# Altium integrated library Altera Cyclone III.IntLib: 225 symbols (part 11 of 46)
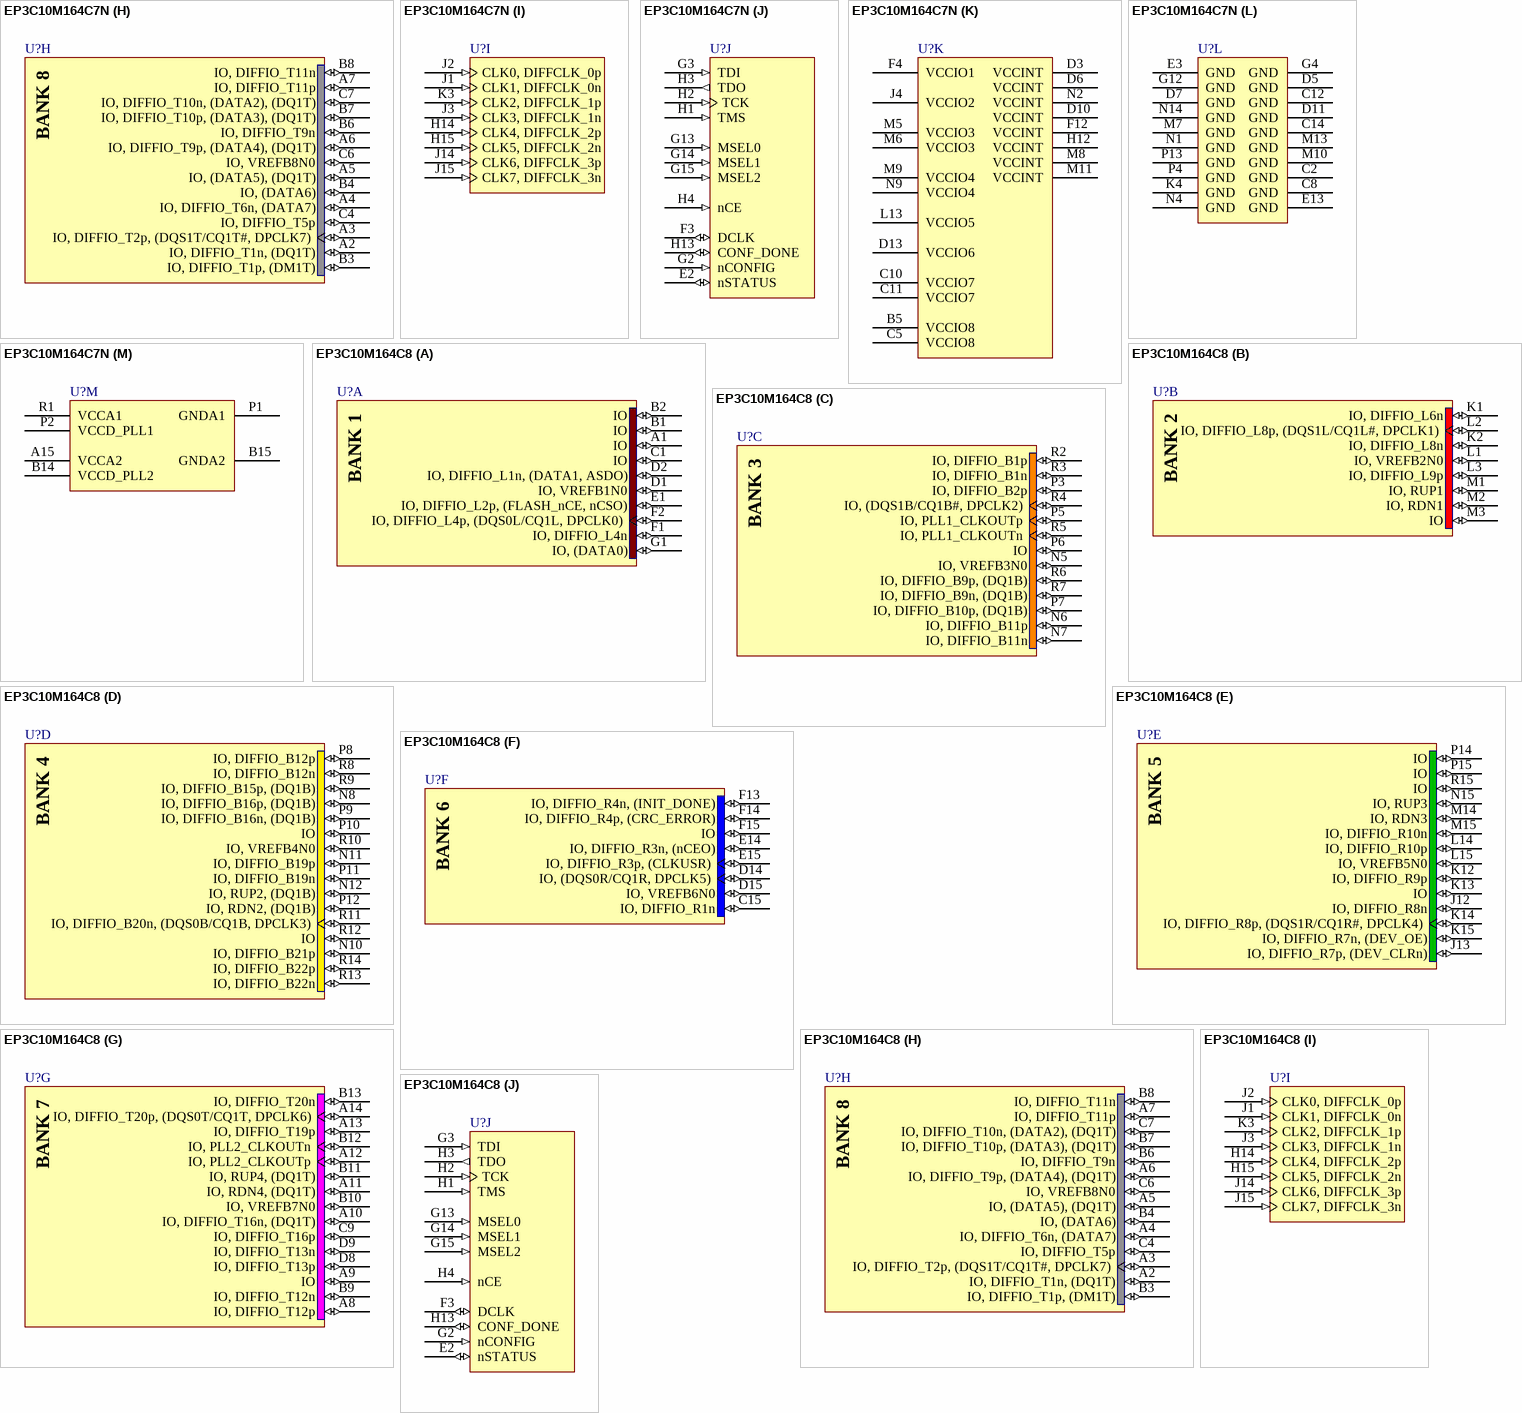
[diagram p404: symbols EP3C10M164C7N to EP3C10M164C8]

## EP3C10M164C7N
designator U?
Cyclone III Family FPGA, 106 I/O Pins, 4 PLLs, 164-Pin EQFP, Speed Grade 7, Commercial Grade, Pb-Free; DatasheetVersion: ver2.0, May-2008; PackageVersion: ver15.1, May-2008; PackageReference: MBGA164; PackageDescription: 164-Pin Micro FineLine Ball Grid Array (MBGA) - Wire Bond; Code_JEDEC: MO-195-AE; ComponentLink1Description: Manufacturer URL; ComponentLink1URL: http://www.altera.com/; ComponentLink2Description: Handbook (7.86MB); ComponentLink2URL: http://www.altera.com/literature/hb/cyc3/cyclone3_handbook.pdf; ComponentLink3Description: Package Specification; ComponentLink3URL: http://www.altera.com/literature/ds/dspkg.pdf
footprint MBGA164 (BGA, 164-Leads, Body 8x8mm, Pitch 0.5mm)
part A pins: A1 IO (io), B1 IO (io), B2 IO (io), C1 IO (io), D1 IO, VREFB1N0 (io), D2 IO, DIFFIO_L1n, (DATA1, ASDO) (io), E1 IO, DIFFIO_L2p, (FLASH_nCE, nCSO) (io), F1 IO, DIFFIO_L4n (io), F2 IO, DIFFIO_L4p, (DQS0L/CQ1L, DPCLK0) (io), G1 IO, (DATA0) (io)
part B pins: K1 IO, DIFFIO_L6n (io), K2 IO, DIFFIO_L8n (io), L1 IO, VREFB2N0 (io), L2 IO, DIFFIO_L8p, (DQS1L/CQ1L#, DPCLK1) (io), L3 IO, DIFFIO_L9p (io), M1 IO, RUP1 (io), M2 IO, RDN1 (io), M3 IO (io)
part C pins: N5 IO, VREFB3N0 (io), N6 IO, DIFFIO_B11p (io), N7 IO, DIFFIO_B11n (io), P3 IO, DIFFIO_B2p (io), P5 IO, PLL1_CLKOUTp (io), P6 IO (io), P7 IO, DIFFIO_B10p, (DQ1B) (io), R2 IO, DIFFIO_B1p (io), R3 IO, DIFFIO_B1n (io), R4 IO, (DQS1B/CQ1B#, DPCLK2) (io), R5 IO, PLL1_CLKOUTn (io), R6 IO, DIFFIO_B9p, (DQ1B) (io), R7 IO, DIFFIO_B9n, (DQ1B) (io)
part D pins: N8 IO, DIFFIO_B16p, (DQ1B) (io), N10 IO, DIFFIO_B21p (io), N11 IO, DIFFIO_B19p (io), N12 IO, RUP2, (DQ1B) (io), P8 IO, DIFFIO_B12p (io), P9 IO, DIFFIO_B16n, (DQ1B) (io), P10 IO (io), P11 IO, DIFFIO_B19n (io), P12 IO, RDN2, (DQ1B) (io), R8 IO, DIFFIO_B12n (io), R9 IO, DIFFIO_B15p, (DQ1B) (io), R10 IO, VREFB4N0 (io), R11 IO, DIFFIO_B20n, (DQS0B/CQ1B, DPCLK3) (io), R12 IO (io), R13 IO, DIFFIO_B22n (io), R14 IO, DIFFIO_B22p (io)
part E pins: J12 IO, DIFFIO_R8n (io), J13 IO, DIFFIO_R7p, (DEV_CLRn) (io), K12 IO, DIFFIO_R9p (io), K13 IO (io), K14 IO, DIFFIO_R8p, (DQS1R/CQ1R#, DPCLK4) (io), K15 IO, DIFFIO_R7n, (DEV_OE) (io), L14 IO, DIFFIO_R10p (io), L15 IO, VREFB5N0 (io), M14 IO, RDN3 (io), M15 IO, DIFFIO_R10n (io), N15 IO, RUP3 (io), P14 IO (io), P15 IO (io), R15 IO (io)
part F pins: C15 IO, DIFFIO_R1n (io), D14 IO, (DQS0R/CQ1R, DPCLK5) (io), D15 IO, VREFB6N0 (io), E14 IO, DIFFIO_R3n, (nCEO) (io), E15 IO, DIFFIO_R3p, (CLKUSR) (io), F13 IO, DIFFIO_R4n, (INIT_DONE) (io), F14 IO, DIFFIO_R4p, (CRC_ERROR) (io), F15 IO (io)
part G pins: A8 IO, DIFFIO_T12p (io), A9 IO (io), A10 IO, DIFFIO_T16n, (DQ1T) (io), A11 IO, RDN4, (DQ1T) (io), A12 IO, PLL2_CLKOUTp (io), A13 IO, DIFFIO_T19p (io), A14 IO, DIFFIO_T20p, (DQS0T/CQ1T, DPCLK6) (io), B9 IO, DIFFIO_T12n (io), B10 IO, VREFB7N0 (io), B11 IO, RUP4, (DQ1T) (io), B12 IO, PLL2_CLKOUTn (io), B13 IO, DIFFIO_T20n (io), C9 IO, DIFFIO_T16p (io), D8 IO, DIFFIO_T13p (io), D9 IO, DIFFIO_T13n (io)
part H pins: A2 IO, DIFFIO_T1n, (DQ1T) (io), A3 IO, DIFFIO_T2p, (DQS1T/CQ1T#, DPCLK7) (io), A4 IO, DIFFIO_T6n, (DATA7) (io), A5 IO, (DATA5), (DQ1T) (io), A6 IO, DIFFIO_T9p, (DATA4), (DQ1T) (io), A7 IO, DIFFIO_T11p (io), B3 IO, DIFFIO_T1p, (DM1T) (io), B4 IO, (DATA6) (io), B6 IO, DIFFIO_T9n (io), B7 IO, DIFFIO_T10p, (DATA3), (DQ1T) (io), B8 IO, DIFFIO_T11n (io), C4 IO, DIFFIO_T5p (io), C6 IO, VREFB8N0 (io), C7 IO, DIFFIO_T10n, (DATA2), (DQ1T) (io)
part I pins: H14 CLK4, DIFFCLK_2p (in), H15 CLK5, DIFFCLK_2n (in), J1 CLK1, DIFFCLK_0n (in), J2 CLK0, DIFFCLK_0p (in), J3 CLK3, DIFFCLK_1n (in), J14 CLK6, DIFFCLK_3p (in), J15 CLK7, DIFFCLK_3n (in), K3 CLK2, DIFFCLK_1p (in)
part J pins: E2 nSTATUS (io), F3 DCLK (io), G2 nCONFIG (in), G3 TDI (in), G13 MSEL0 (in), G14 MSEL1 (in), G15 MSEL2 (in), H1 TMS (in), H2 TCK (in), H3 TDO (out), H4 nCE (in), H13 CONF_DONE (io)
part K pins: B5 VCCIO8 (power), C5 VCCIO8 (power), C10 VCCIO7 (power), C11 VCCIO7 (power), D3 VCCINT (power), D6 VCCINT (power), D10 VCCINT (power), D13 VCCIO6 (power), F4 VCCIO1 (power), F12 VCCINT (power), H12 VCCINT (power), J4 VCCIO2 (power), L13 VCCIO5 (power), M5 VCCIO3 (power), M6 VCCIO3 (power), M8 VCCINT (power), M9 VCCIO4 (power), M11 VCCINT (power), N2 VCCINT (power), N9 VCCIO4 (power)
part L pins: C2 GND (power), C8 GND (power), C12 GND (power), C14 GND (power), D5 GND (power), D7 GND (power), D11 GND (power), E3 GND (power), E13 GND (power), G4 GND (power), G12 GND (power), K4 GND (power), M7 GND (power), M10 GND (power), M13 GND (power), N1 GND (power), N4 GND (power), N14 GND (power), P4 GND (power), P13 GND (power)
part M pins: A15 VCCA2 (power), B14 VCCD_PLL2 (power), B15 GNDA2 (power), P1 GNDA1 (power), P2 VCCD_PLL1 (power), R1 VCCA1 (power)
part A text: BANK 1
part B text: BANK 2
part C text: BANK 3
part D text: BANK 4
part E text: BANK 5
part F text: BANK 6
part G text: BANK 7
part H text: BANK 8

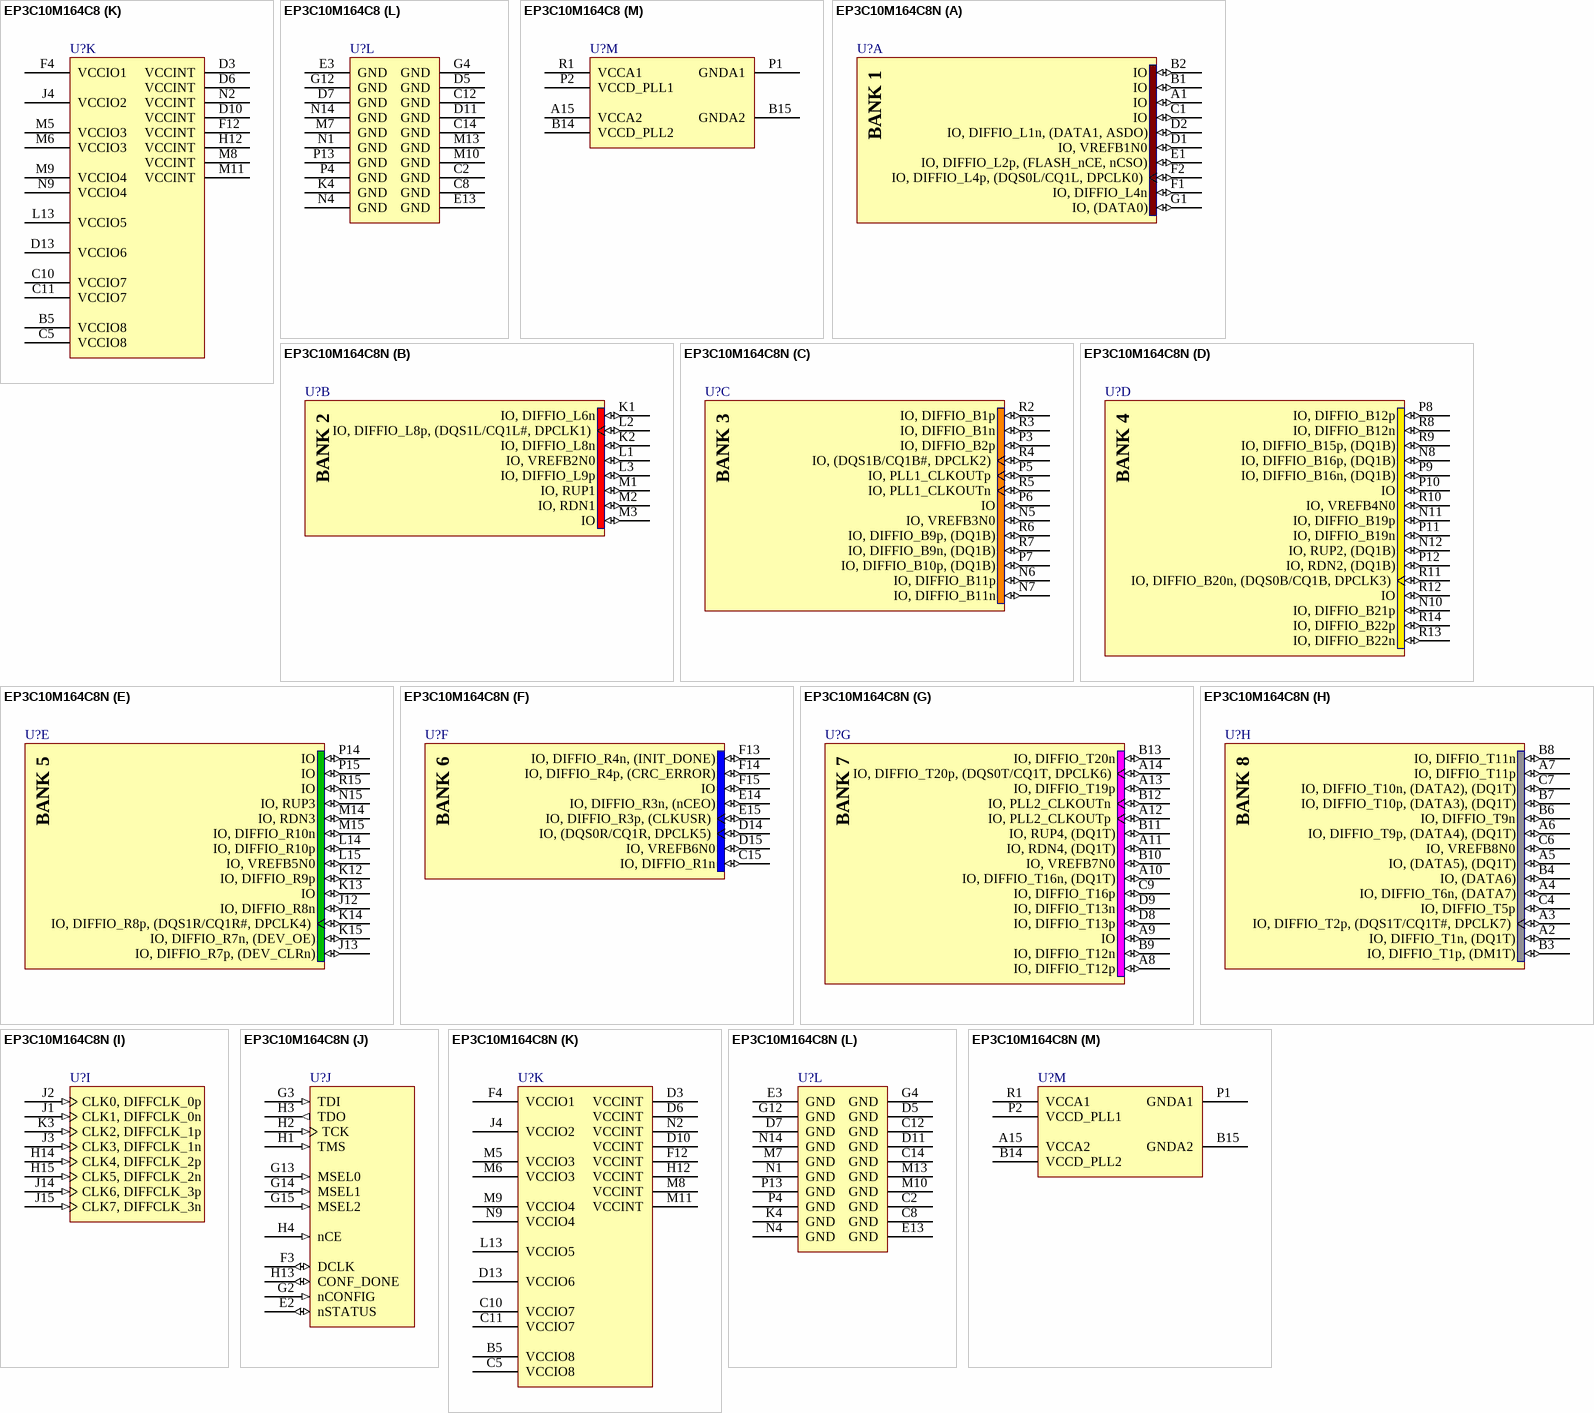
[diagram p48: symbols EP3C10M164C8 to EP3C10M164C8N]

## EP3C10M164C8
designator U?
Cyclone III Family FPGA, 106 I/O Pins, 4 PLLs, 164-Pin EQFP, Speed Grade 8, Commercial Grade; DatasheetVersion: ver2.0, May-2008; PackageVersion: ver15.1, May-2008; PackageReference: MBGA164; PackageDescription: 164-Pin Micro FineLine Ball Grid Array (MBGA) - Wire Bond; Code_JEDEC: MO-195-AE; ComponentLink1Description: Manufacturer URL; ComponentLink1URL: http://www.altera.com/; ComponentLink2Description: Handbook (7.86MB); ComponentLink2URL: http://www.altera.com/literature/hb/cyc3/cyclone3_handbook.pdf; ComponentLink3Description: Package Specification; ComponentLink3URL: http://www.altera.com/literature/ds/dspkg.pdf
footprint MBGA164 (BGA, 164-Leads, Body 8x8mm, Pitch 0.5mm)
part A pins: A1 IO (io), B1 IO (io), B2 IO (io), C1 IO (io), D1 IO, VREFB1N0 (io), D2 IO, DIFFIO_L1n, (DATA1, ASDO) (io), E1 IO, DIFFIO_L2p, (FLASH_nCE, nCSO) (io), F1 IO, DIFFIO_L4n (io), F2 IO, DIFFIO_L4p, (DQS0L/CQ1L, DPCLK0) (io), G1 IO, (DATA0) (io)
part B pins: K1 IO, DIFFIO_L6n (io), K2 IO, DIFFIO_L8n (io), L1 IO, VREFB2N0 (io), L2 IO, DIFFIO_L8p, (DQS1L/CQ1L#, DPCLK1) (io), L3 IO, DIFFIO_L9p (io), M1 IO, RUP1 (io), M2 IO, RDN1 (io), M3 IO (io)
part C pins: N5 IO, VREFB3N0 (io), N6 IO, DIFFIO_B11p (io), N7 IO, DIFFIO_B11n (io), P3 IO, DIFFIO_B2p (io), P5 IO, PLL1_CLKOUTp (io), P6 IO (io), P7 IO, DIFFIO_B10p, (DQ1B) (io), R2 IO, DIFFIO_B1p (io), R3 IO, DIFFIO_B1n (io), R4 IO, (DQS1B/CQ1B#, DPCLK2) (io), R5 IO, PLL1_CLKOUTn (io), R6 IO, DIFFIO_B9p, (DQ1B) (io), R7 IO, DIFFIO_B9n, (DQ1B) (io)
part D pins: N8 IO, DIFFIO_B16p, (DQ1B) (io), N10 IO, DIFFIO_B21p (io), N11 IO, DIFFIO_B19p (io), N12 IO, RUP2, (DQ1B) (io), P8 IO, DIFFIO_B12p (io), P9 IO, DIFFIO_B16n, (DQ1B) (io), P10 IO (io), P11 IO, DIFFIO_B19n (io), P12 IO, RDN2, (DQ1B) (io), R8 IO, DIFFIO_B12n (io), R9 IO, DIFFIO_B15p, (DQ1B) (io), R10 IO, VREFB4N0 (io), R11 IO, DIFFIO_B20n, (DQS0B/CQ1B, DPCLK3) (io), R12 IO (io), R13 IO, DIFFIO_B22n (io), R14 IO, DIFFIO_B22p (io)
part E pins: J12 IO, DIFFIO_R8n (io), J13 IO, DIFFIO_R7p, (DEV_CLRn) (io), K12 IO, DIFFIO_R9p (io), K13 IO (io), K14 IO, DIFFIO_R8p, (DQS1R/CQ1R#, DPCLK4) (io), K15 IO, DIFFIO_R7n, (DEV_OE) (io), L14 IO, DIFFIO_R10p (io), L15 IO, VREFB5N0 (io), M14 IO, RDN3 (io), M15 IO, DIFFIO_R10n (io), N15 IO, RUP3 (io), P14 IO (io), P15 IO (io), R15 IO (io)
part F pins: C15 IO, DIFFIO_R1n (io), D14 IO, (DQS0R/CQ1R, DPCLK5) (io), D15 IO, VREFB6N0 (io), E14 IO, DIFFIO_R3n, (nCEO) (io), E15 IO, DIFFIO_R3p, (CLKUSR) (io), F13 IO, DIFFIO_R4n, (INIT_DONE) (io), F14 IO, DIFFIO_R4p, (CRC_ERROR) (io), F15 IO (io)
part G pins: A8 IO, DIFFIO_T12p (io), A9 IO (io), A10 IO, DIFFIO_T16n, (DQ1T) (io), A11 IO, RDN4, (DQ1T) (io), A12 IO, PLL2_CLKOUTp (io), A13 IO, DIFFIO_T19p (io), A14 IO, DIFFIO_T20p, (DQS0T/CQ1T, DPCLK6) (io), B9 IO, DIFFIO_T12n (io), B10 IO, VREFB7N0 (io), B11 IO, RUP4, (DQ1T) (io), B12 IO, PLL2_CLKOUTn (io), B13 IO, DIFFIO_T20n (io), C9 IO, DIFFIO_T16p (io), D8 IO, DIFFIO_T13p (io), D9 IO, DIFFIO_T13n (io)
part H pins: A2 IO, DIFFIO_T1n, (DQ1T) (io), A3 IO, DIFFIO_T2p, (DQS1T/CQ1T#, DPCLK7) (io), A4 IO, DIFFIO_T6n, (DATA7) (io), A5 IO, (DATA5), (DQ1T) (io), A6 IO, DIFFIO_T9p, (DATA4), (DQ1T) (io), A7 IO, DIFFIO_T11p (io), B3 IO, DIFFIO_T1p, (DM1T) (io), B4 IO, (DATA6) (io), B6 IO, DIFFIO_T9n (io), B7 IO, DIFFIO_T10p, (DATA3), (DQ1T) (io), B8 IO, DIFFIO_T11n (io), C4 IO, DIFFIO_T5p (io), C6 IO, VREFB8N0 (io), C7 IO, DIFFIO_T10n, (DATA2), (DQ1T) (io)
part I pins: H14 CLK4, DIFFCLK_2p (in), H15 CLK5, DIFFCLK_2n (in), J1 CLK1, DIFFCLK_0n (in), J2 CLK0, DIFFCLK_0p (in), J3 CLK3, DIFFCLK_1n (in), J14 CLK6, DIFFCLK_3p (in), J15 CLK7, DIFFCLK_3n (in), K3 CLK2, DIFFCLK_1p (in)
part J pins: E2 nSTATUS (io), F3 DCLK (io), G2 nCONFIG (in), G3 TDI (in), G13 MSEL0 (in), G14 MSEL1 (in), G15 MSEL2 (in), H1 TMS (in), H2 TCK (in), H3 TDO (out), H4 nCE (in), H13 CONF_DONE (io)
part K pins: B5 VCCIO8 (power), C5 VCCIO8 (power), C10 VCCIO7 (power), C11 VCCIO7 (power), D3 VCCINT (power), D6 VCCINT (power), D10 VCCINT (power), D13 VCCIO6 (power), F4 VCCIO1 (power), F12 VCCINT (power), H12 VCCINT (power), J4 VCCIO2 (power), L13 VCCIO5 (power), M5 VCCIO3 (power), M6 VCCIO3 (power), M8 VCCINT (power), M9 VCCIO4 (power), M11 VCCINT (power), N2 VCCINT (power), N9 VCCIO4 (power)
part L pins: C2 GND (power), C8 GND (power), C12 GND (power), C14 GND (power), D5 GND (power), D7 GND (power), D11 GND (power), E3 GND (power), E13 GND (power), G4 GND (power), G12 GND (power), K4 GND (power), M7 GND (power), M10 GND (power), M13 GND (power), N1 GND (power), N4 GND (power), N14 GND (power), P4 GND (power), P13 GND (power)
part M pins: A15 VCCA2 (power), B14 VCCD_PLL2 (power), B15 GNDA2 (power), P1 GNDA1 (power), P2 VCCD_PLL1 (power), R1 VCCA1 (power)
part A text: BANK 1
part B text: BANK 2
part C text: BANK 3
part D text: BANK 4
part E text: BANK 5
part F text: BANK 6
part G text: BANK 7
part H text: BANK 8

## EP3C10M164C8N
designator U?
Cyclone III Family FPGA, 106 I/O Pins, 4 PLLs, 164-Pin EQFP, Speed Grade 8, Commercial Grade, Pb-Free; DatasheetVersion: ver2.0, May-2008; PackageVersion: ver15.1, May-2008; PackageReference: MBGA164; PackageDescription: 164-Pin Micro FineLine Ball Grid Array (MBGA) - Wire Bond; Code_JEDEC: MO-195-AE; ComponentLink1Description: Manufacturer URL; ComponentLink1URL: http://www.altera.com/; ComponentLink2Description: Handbook (7.86MB); ComponentLink2URL: http://www.altera.com/literature/hb/cyc3/cyclone3_handbook.pdf; ComponentLink3Description: Package Specification; ComponentLink3URL: http://www.altera.com/literature/ds/dspkg.pdf
footprint MBGA164 (BGA, 164-Leads, Body 8x8mm, Pitch 0.5mm)
part A pins: A1 IO (io), B1 IO (io), B2 IO (io), C1 IO (io), D1 IO, VREFB1N0 (io), D2 IO, DIFFIO_L1n, (DATA1, ASDO) (io), E1 IO, DIFFIO_L2p, (FLASH_nCE, nCSO) (io), F1 IO, DIFFIO_L4n (io), F2 IO, DIFFIO_L4p, (DQS0L/CQ1L, DPCLK0) (io), G1 IO, (DATA0) (io)
part B pins: K1 IO, DIFFIO_L6n (io), K2 IO, DIFFIO_L8n (io), L1 IO, VREFB2N0 (io), L2 IO, DIFFIO_L8p, (DQS1L/CQ1L#, DPCLK1) (io), L3 IO, DIFFIO_L9p (io), M1 IO, RUP1 (io), M2 IO, RDN1 (io), M3 IO (io)
part C pins: N5 IO, VREFB3N0 (io), N6 IO, DIFFIO_B11p (io), N7 IO, DIFFIO_B11n (io), P3 IO, DIFFIO_B2p (io), P5 IO, PLL1_CLKOUTp (io), P6 IO (io), P7 IO, DIFFIO_B10p, (DQ1B) (io), R2 IO, DIFFIO_B1p (io), R3 IO, DIFFIO_B1n (io), R4 IO, (DQS1B/CQ1B#, DPCLK2) (io), R5 IO, PLL1_CLKOUTn (io), R6 IO, DIFFIO_B9p, (DQ1B) (io), R7 IO, DIFFIO_B9n, (DQ1B) (io)
part D pins: N8 IO, DIFFIO_B16p, (DQ1B) (io), N10 IO, DIFFIO_B21p (io), N11 IO, DIFFIO_B19p (io), N12 IO, RUP2, (DQ1B) (io), P8 IO, DIFFIO_B12p (io), P9 IO, DIFFIO_B16n, (DQ1B) (io), P10 IO (io), P11 IO, DIFFIO_B19n (io), P12 IO, RDN2, (DQ1B) (io), R8 IO, DIFFIO_B12n (io), R9 IO, DIFFIO_B15p, (DQ1B) (io), R10 IO, VREFB4N0 (io), R11 IO, DIFFIO_B20n, (DQS0B/CQ1B, DPCLK3) (io), R12 IO (io), R13 IO, DIFFIO_B22n (io), R14 IO, DIFFIO_B22p (io)
part E pins: J12 IO, DIFFIO_R8n (io), J13 IO, DIFFIO_R7p, (DEV_CLRn) (io), K12 IO, DIFFIO_R9p (io), K13 IO (io), K14 IO, DIFFIO_R8p, (DQS1R/CQ1R#, DPCLK4) (io), K15 IO, DIFFIO_R7n, (DEV_OE) (io), L14 IO, DIFFIO_R10p (io), L15 IO, VREFB5N0 (io), M14 IO, RDN3 (io), M15 IO, DIFFIO_R10n (io), N15 IO, RUP3 (io), P14 IO (io), P15 IO (io), R15 IO (io)
part F pins: C15 IO, DIFFIO_R1n (io), D14 IO, (DQS0R/CQ1R, DPCLK5) (io), D15 IO, VREFB6N0 (io), E14 IO, DIFFIO_R3n, (nCEO) (io), E15 IO, DIFFIO_R3p, (CLKUSR) (io), F13 IO, DIFFIO_R4n, (INIT_DONE) (io), F14 IO, DIFFIO_R4p, (CRC_ERROR) (io), F15 IO (io)
part G pins: A8 IO, DIFFIO_T12p (io), A9 IO (io), A10 IO, DIFFIO_T16n, (DQ1T) (io), A11 IO, RDN4, (DQ1T) (io), A12 IO, PLL2_CLKOUTp (io), A13 IO, DIFFIO_T19p (io), A14 IO, DIFFIO_T20p, (DQS0T/CQ1T, DPCLK6) (io), B9 IO, DIFFIO_T12n (io), B10 IO, VREFB7N0 (io), B11 IO, RUP4, (DQ1T) (io), B12 IO, PLL2_CLKOUTn (io), B13 IO, DIFFIO_T20n (io), C9 IO, DIFFIO_T16p (io), D8 IO, DIFFIO_T13p (io), D9 IO, DIFFIO_T13n (io)
part H pins: A2 IO, DIFFIO_T1n, (DQ1T) (io), A3 IO, DIFFIO_T2p, (DQS1T/CQ1T#, DPCLK7) (io), A4 IO, DIFFIO_T6n, (DATA7) (io), A5 IO, (DATA5), (DQ1T) (io), A6 IO, DIFFIO_T9p, (DATA4), (DQ1T) (io), A7 IO, DIFFIO_T11p (io), B3 IO, DIFFIO_T1p, (DM1T) (io), B4 IO, (DATA6) (io), B6 IO, DIFFIO_T9n (io), B7 IO, DIFFIO_T10p, (DATA3), (DQ1T) (io), B8 IO, DIFFIO_T11n (io), C4 IO, DIFFIO_T5p (io), C6 IO, VREFB8N0 (io), C7 IO, DIFFIO_T10n, (DATA2), (DQ1T) (io)
part I pins: H14 CLK4, DIFFCLK_2p (in), H15 CLK5, DIFFCLK_2n (in), J1 CLK1, DIFFCLK_0n (in), J2 CLK0, DIFFCLK_0p (in), J3 CLK3, DIFFCLK_1n (in), J14 CLK6, DIFFCLK_3p (in), J15 CLK7, DIFFCLK_3n (in), K3 CLK2, DIFFCLK_1p (in)
part J pins: E2 nSTATUS (io), F3 DCLK (io), G2 nCONFIG (in), G3 TDI (in), G13 MSEL0 (in), G14 MSEL1 (in), G15 MSEL2 (in), H1 TMS (in), H2 TCK (in), H3 TDO (out), H4 nCE (in), H13 CONF_DONE (io)
part K pins: B5 VCCIO8 (power), C5 VCCIO8 (power), C10 VCCIO7 (power), C11 VCCIO7 (power), D3 VCCINT (power), D6 VCCINT (power), D10 VCCINT (power), D13 VCCIO6 (power), F4 VCCIO1 (power), F12 VCCINT (power), H12 VCCINT (power), J4 VCCIO2 (power), L13 VCCIO5 (power), M5 VCCIO3 (power), M6 VCCIO3 (power), M8 VCCINT (power), M9 VCCIO4 (power), M11 VCCINT (power), N2 VCCINT (power), N9 VCCIO4 (power)
part L pins: C2 GND (power), C8 GND (power), C12 GND (power), C14 GND (power), D5 GND (power), D7 GND (power), D11 GND (power), E3 GND (power), E13 GND (power), G4 GND (power), G12 GND (power), K4 GND (power), M7 GND (power), M10 GND (power), M13 GND (power), N1 GND (power), N4 GND (power), N14 GND (power), P4 GND (power), P13 GND (power)
part M pins: A15 VCCA2 (power), B14 VCCD_PLL2 (power), B15 GNDA2 (power), P1 GNDA1 (power), P2 VCCD_PLL1 (power), R1 VCCA1 (power)
part A text: BANK 1
part B text: BANK 2
part C text: BANK 3
part D text: BANK 4
part E text: BANK 5
part F text: BANK 6
part G text: BANK 7
part H text: BANK 8

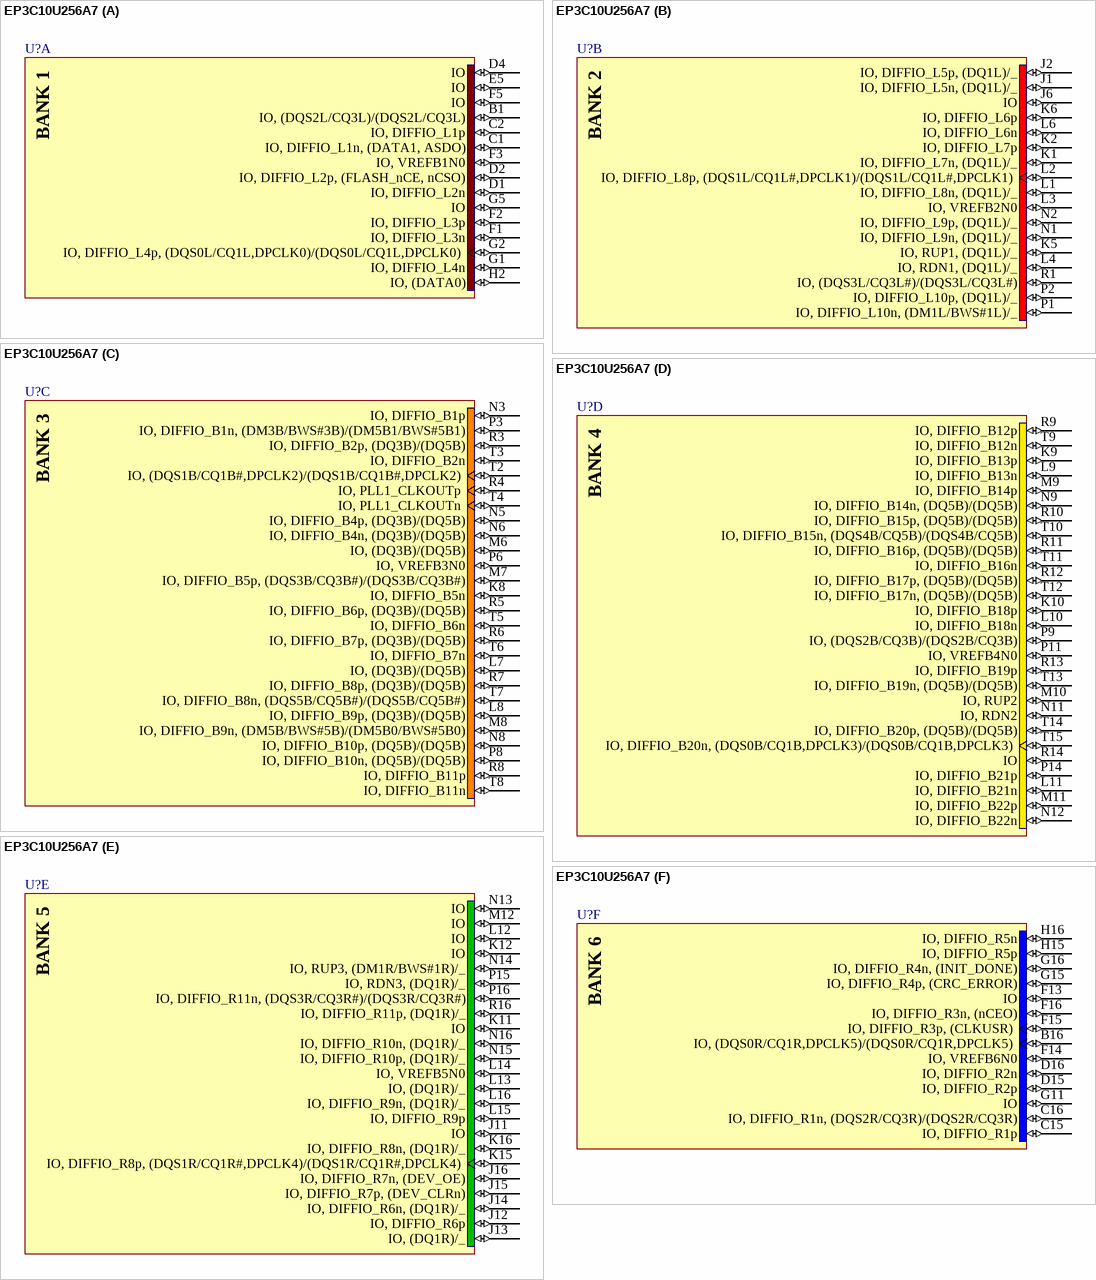
[diagram p49: symbol EP3C10U256A7]

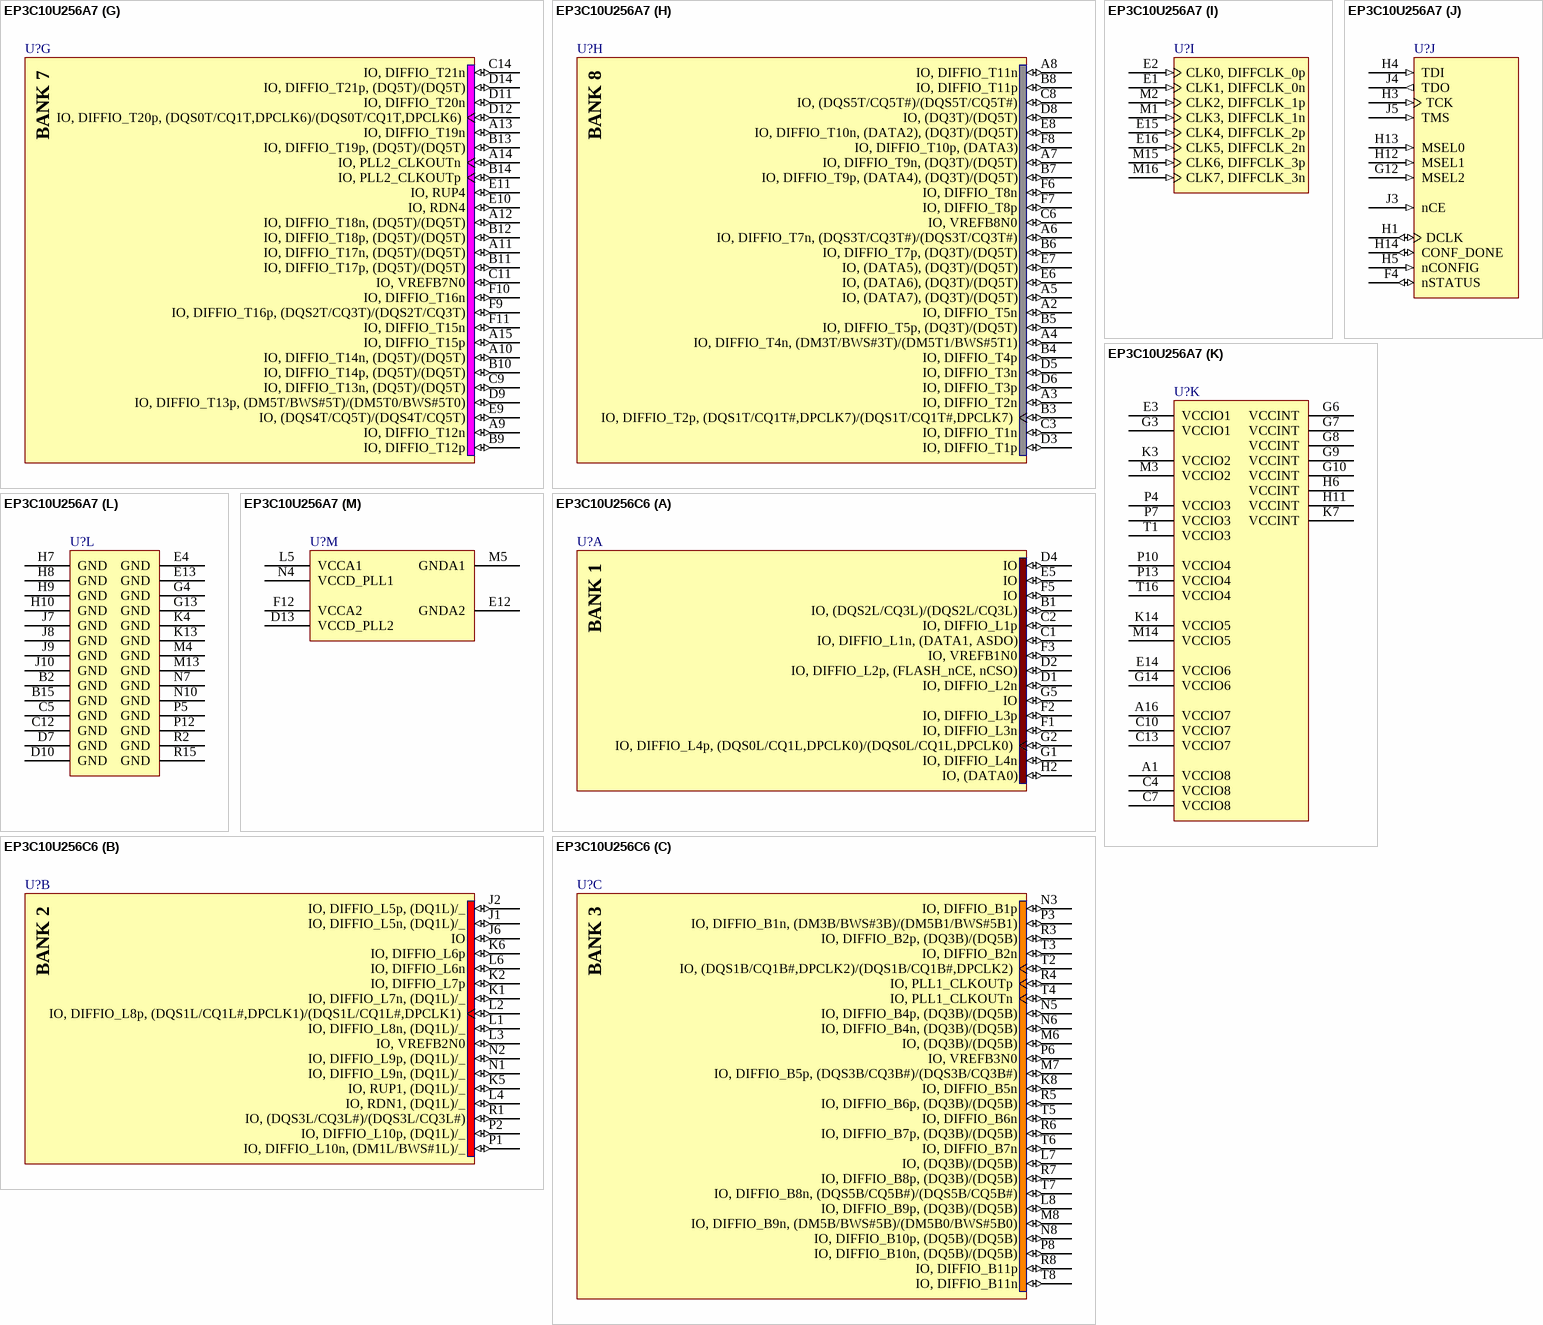
[diagram p50: symbols EP3C10U256A7 to EP3C10U256C6]

## EP3C10U256A7
designator U?
Cyclone III Family FPGA, 182 I/O Pins, 4 PLLs, 256-Pin UFBGA, Speed Grade 7, Automotive Grade, Pb-free; DatasheetVersion: ver2.0, May-2008; PackageVersion: ver15.1, May-2008; PackageReference: UBGA256; PackageDescription: 256-Ball Ultra FineLine Ball Grid Array (UBGA) - Wire Bond; Code_JEDEC: MO-216-BAJ-2; ComponentLink1Description: Manufacturer URL; ComponentLink1URL: http://www.altera.com/; ComponentLink2Description: Handbook (7.86MB); ComponentLink2URL: http://www.altera.com/literature/hb/cyc3/cyclone3_handbook.pdf; ComponentLink3Description: Package Specification; ComponentLink3URL: http://www.altera.com/literature/ds/dspkg.pdf
footprint UBGA256 (BGA, 484-Leads, Body 19x19mm, Pitch 0.8mm)
part A pins: B1 IO, (DQS2L/CQ3L)/(DQS2L/CQ3L) (io), C1 IO, DIFFIO_L1n, (DATA1, ASDO) (io), C2 IO, DIFFIO_L1p (io), D1 IO, DIFFIO_L2n (io), D2 IO, DIFFIO_L2p, (FLASH_nCE, nCSO) (io), D4 IO (io), E5 IO (io), F1 IO, DIFFIO_L3n (io), F2 IO, DIFFIO_L3p (io), F3 IO, VREFB1N0 (io), F5 IO (io), G1 IO, DIFFIO_L4n (io), G2 IO, DIFFIO_L4p, (DQS0L/CQ1L,DPCLK0)/(DQS0L/CQ1L,DPCLK0) (io), G5 IO (io), H2 IO, (DATA0) (io)
part B pins: J1 IO, DIFFIO_L5n, (DQ1L)/_ (io), J2 IO, DIFFIO_L5p, (DQ1L)/_ (io), J6 IO (io), K1 IO, DIFFIO_L7n, (DQ1L)/_ (io), K2 IO, DIFFIO_L7p (io), K5 IO, RUP1, (DQ1L)/_ (io), K6 IO, DIFFIO_L6p (io), L1 IO, DIFFIO_L8n, (DQ1L)/_ (io), L2 IO, DIFFIO_L8p, (DQS1L/CQ1L#,DPCLK1)/(DQS1L/CQ1L#,DPCLK1) (io), L3 IO, VREFB2N0 (io), L4 IO, RDN1, (DQ1L)/_ (io), L6 IO, DIFFIO_L6n (io), N1 IO, DIFFIO_L9n, (DQ1L)/_ (io), N2 IO, DIFFIO_L9p, (DQ1L)/_ (io), P1 IO, DIFFIO_L10n, (DM1L/BWS#1L)/_ (io), P2 IO, DIFFIO_L10p, (DQ1L)/_ (io), R1 IO, (DQS3L/CQ3L#)/(DQS3L/CQ3L#) (io)
part C pins: K8 IO, DIFFIO_B5n (io), L7 IO, (DQ3B)/(DQ5B) (io), L8 IO, DIFFIO_B9p, (DQ3B)/(DQ5B) (io), M6 IO, (DQ3B)/(DQ5B) (io), M7 IO, DIFFIO_B5p, (DQS3B/CQ3B#)/(DQS3B/CQ3B#) (io), M8 IO, DIFFIO_B9n, (DM5B/BWS#5B)/(DM5B0/BWS#5B0) (io), N3 IO, DIFFIO_B1p (io), N5 IO, DIFFIO_B4p, (DQ3B)/(DQ5B) (io), N6 IO, DIFFIO_B4n, (DQ3B)/(DQ5B) (io), N8 IO, DIFFIO_B10p, (DQ5B)/(DQ5B) (io), P3 IO, DIFFIO_B1n, (DM3B/BWS#3B)/(DM5B1/BWS#5B1) (io), P6 IO, VREFB3N0 (io), P8 IO, DIFFIO_B10n, (DQ5B)/(DQ5B) (io), R3 IO, DIFFIO_B2p, (DQ3B)/(DQ5B) (io), R4 IO, PLL1_CLKOUTp (io), R5 IO, DIFFIO_B6p, (DQ3B)/(DQ5B) (io), R6 IO, DIFFIO_B7p, (DQ3B)/(DQ5B) (io), R7 IO, DIFFIO_B8p, (DQ3B)/(DQ5B) (io), R8 IO, DIFFIO_B11p (io), T2 IO, (DQS1B/CQ1B#,DPCLK2)/(DQS1B/CQ1B#,DPCLK2) (io), T3 IO, DIFFIO_B2n (io), T4 IO, PLL1_CLKOUTn (io), T5 IO, DIFFIO_B6n (io), T6 IO, DIFFIO_B7n (io), T7 IO, DIFFIO_B8n, (DQS5B/CQ5B#)/(DQS5B/CQ5B#) (io), T8 IO, DIFFIO_B11n (io)
part D pins: K9 IO, DIFFIO_B13p (io), K10 IO, DIFFIO_B18p (io), L9 IO, DIFFIO_B13n (io), L10 IO, DIFFIO_B18n (io), L11 IO, DIFFIO_B21n (io), M9 IO, DIFFIO_B14p (io), M10 IO, RUP2 (io), M11 IO, DIFFIO_B22p (io), N9 IO, DIFFIO_B14n, (DQ5B)/(DQ5B) (io), N11 IO, RDN2 (io), N12 IO, DIFFIO_B22n (io), P9 IO, (DQS2B/CQ3B)/(DQS2B/CQ3B) (io), P11 IO, VREFB4N0 (io), P14 IO, DIFFIO_B21p (io), R9 IO, DIFFIO_B12p (io), R10 IO, DIFFIO_B15p, (DQ5B)/(DQ5B) (io), R11 IO, DIFFIO_B16p, (DQ5B)/(DQ5B) (io), R12 IO, DIFFIO_B17p, (DQ5B)/(DQ5B) (io), R13 IO, DIFFIO_B19p (io), R14 IO (io), T9 IO, DIFFIO_B12n (io), T10 IO, DIFFIO_B15n, (DQS4B/CQ5B)/(DQS4B/CQ5B) (io), T11 IO, DIFFIO_B16n (io), T12 IO, DIFFIO_B17n, (DQ5B)/(DQ5B) (io), T13 IO, DIFFIO_B19n, (DQ5B)/(DQ5B) (io), T14 IO, DIFFIO_B20p, (DQ5B)/(DQ5B) (io), T15 IO, DIFFIO_B20n, (DQS0B/CQ1B,DPCLK3)/(DQS0B/CQ1B,DPCLK3) (io)
part E pins: J11 IO (io), J12 IO, DIFFIO_R6p (io), J13 IO, (DQ1R)/_ (io), J14 IO, DIFFIO_R6n, (DQ1R)/_ (io), J15 IO, DIFFIO_R7p, (DEV_CLRn) (io), J16 IO, DIFFIO_R7n, (DEV_OE) (io), K11 IO (io), K12 IO (io), K15 IO, DIFFIO_R8p, (DQS1R/CQ1R#,DPCLK4)/(DQS1R/CQ1R#,DPCLK4) (io), K16 IO, DIFFIO_R8n, (DQ1R)/_ (io), L12 IO (io), L13 IO, (DQ1R)/_ (io), L14 IO, VREFB5N0 (io), L15 IO, DIFFIO_R9p (io), L16 IO, DIFFIO_R9n, (DQ1R)/_ (io), M12 IO (io), N13 IO (io), N14 IO, RUP3, (DM1R/BWS#1R)/_ (io), N15 IO, DIFFIO_R10p, (DQ1R)/_ (io), N16 IO, DIFFIO_R10n, (DQ1R)/_ (io), P15 IO, RDN3, (DQ1R)/_ (io), P16 IO, DIFFIO_R11n, (DQS3R/CQ3R#)/(DQS3R/CQ3R#) (io), R16 IO, DIFFIO_R11p, (DQ1R)/_ (io)
part F pins: B16 IO, (DQS0R/CQ1R,DPCLK5)/(DQS0R/CQ1R,DPCLK5) (io), C15 IO, DIFFIO_R1p (io), C16 IO, DIFFIO_R1n, (DQS2R/CQ3R)/(DQS2R/CQ3R) (io), D15 IO, DIFFIO_R2p (io), D16 IO, DIFFIO_R2n (io), F13 IO (io), F14 IO, VREFB6N0 (io), F15 IO, DIFFIO_R3p, (CLKUSR) (io), F16 IO, DIFFIO_R3n, (nCEO) (io), G11 IO (io), G15 IO, DIFFIO_R4p, (CRC_ERROR) (io), G16 IO, DIFFIO_R4n, (INIT_DONE) (io), H15 IO, DIFFIO_R5p (io), H16 IO, DIFFIO_R5n (io)
part G pins: A9 IO, DIFFIO_T12n (io), A10 IO, DIFFIO_T14n, (DQ5T)/(DQ5T) (io), A11 IO, DIFFIO_T17n, (DQ5T)/(DQ5T) (io), A12 IO, DIFFIO_T18n, (DQ5T)/(DQ5T) (io), A13 IO, DIFFIO_T19n (io), A14 IO, PLL2_CLKOUTn (io), A15 IO, DIFFIO_T15p (io), B9 IO, DIFFIO_T12p (io), B10 IO, DIFFIO_T14p, (DQ5T)/(DQ5T) (io), B11 IO, DIFFIO_T17p, (DQ5T)/(DQ5T) (io), B12 IO, DIFFIO_T18p, (DQ5T)/(DQ5T) (io), B13 IO, DIFFIO_T19p, (DQ5T)/(DQ5T) (io), B14 IO, PLL2_CLKOUTp (io), C9 IO, DIFFIO_T13n, (DQ5T)/(DQ5T) (io), C11 IO, VREFB7N0 (io), C14 IO, DIFFIO_T21n (io), D9 IO, DIFFIO_T13p, (DM5T/BWS#5T)/(DM5T0/BWS#5T0) (io), D11 IO, DIFFIO_T20n (io), D12 IO, DIFFIO_T20p, (DQS0T/CQ1T,DPCLK6)/(DQS0T/CQ1T,DPCLK6) (io), D14 IO, DIFFIO_T21p, (DQ5T)/(DQ5T) (io), E9 IO, (DQS4T/CQ5T)/(DQS4T/CQ5T) (io), E10 IO, RDN4 (io), E11 IO, RUP4 (io), F9 IO, DIFFIO_T16p, (DQS2T/CQ3T)/(DQS2T/CQ3T) (io), F10 IO, DIFFIO_T16n (io), F11 IO, DIFFIO_T15n (io)
part H pins: A2 IO, DIFFIO_T5n (io), A3 IO, DIFFIO_T2n (io), A4 IO, DIFFIO_T4n, (DM3T/BWS#3T)/(DM5T1/BWS#5T1) (io), A5 IO, (DATA7), (DQ3T)/(DQ5T) (io), A6 IO, DIFFIO_T7n, (DQS3T/CQ3T#)/(DQS3T/CQ3T#) (io), A7 IO, DIFFIO_T9n, (DQ3T)/(DQ5T) (io), A8 IO, DIFFIO_T11n (io), B3 IO, DIFFIO_T2p, (DQS1T/CQ1T#,DPCLK7)/(DQS1T/CQ1T#,DPCLK7) (io), B4 IO, DIFFIO_T4p (io), B5 IO, DIFFIO_T5p, (DQ3T)/(DQ5T) (io), B6 IO, DIFFIO_T7p, (DQ3T)/(DQ5T) (io), B7 IO, DIFFIO_T9p, (DATA4), (DQ3T)/(DQ5T) (io), B8 IO, DIFFIO_T11p (io), C3 IO, DIFFIO_T1n (io), C6 IO, VREFB8N0 (io), C8 IO, (DQS5T/CQ5T#)/(DQS5T/CQ5T#) (io), D3 IO, DIFFIO_T1p (io), D5 IO, DIFFIO_T3n (io), D6 IO, DIFFIO_T3p (io), D8 IO, (DQ3T)/(DQ5T) (io), E6 IO, (DATA6), (DQ3T)/(DQ5T) (io), E7 IO, (DATA5), (DQ3T)/(DQ5T) (io), E8 IO, DIFFIO_T10n, (DATA2), (DQ3T)/(DQ5T) (io), F6 IO, DIFFIO_T8n (io), F7 IO, DIFFIO_T8p (io), F8 IO, DIFFIO_T10p, (DATA3) (io)
part I pins: E1 CLK1, DIFFCLK_0n (in), E2 CLK0, DIFFCLK_0p (in), E15 CLK4, DIFFCLK_2p (in), E16 CLK5, DIFFCLK_2n (in), M1 CLK3, DIFFCLK_1n (in), M2 CLK2, DIFFCLK_1p (in), M15 CLK6, DIFFCLK_3p (in), M16 CLK7, DIFFCLK_3n (in)
part J pins: F4 nSTATUS (io), G12 MSEL2 (in), H1 DCLK (io), H3 TCK (in), H4 TDI (in), H5 nCONFIG (in), H12 MSEL1 (in), H13 MSEL0 (in), H14 CONF_DONE (io), J3 nCE (in), J4 TDO (out), J5 TMS (in)
part K pins: A1 VCCIO8 (power), A16 VCCIO7 (power), C4 VCCIO8 (power), C7 VCCIO8 (power), C10 VCCIO7 (power), C13 VCCIO7 (power), E3 VCCIO1 (power), E14 VCCIO6 (power), G3 VCCIO1 (power), G6 VCCINT (power), G7 VCCINT (power), G8 VCCINT (power), G9 VCCINT (power), G10 VCCINT (power), G14 VCCIO6 (power), H6 VCCINT (power), H11 VCCINT (power), K3 VCCIO2 (power), K7 VCCINT (power), K14 VCCIO5 (power), M3 VCCIO2 (power), M14 VCCIO5 (power), P4 VCCIO3 (power), P7 VCCIO3 (power), P10 VCCIO4 (power), P13 VCCIO4 (power), T1 VCCIO3 (power), T16 VCCIO4 (power)
part L pins: B2 GND (power), B15 GND (power), C5 GND (power), C12 GND (power), D7 GND (power), D10 GND (power), E4 GND (power), E13 GND (power), G4 GND (power), G13 GND (power), H7 GND (power), H8 GND (power), H9 GND (power), H10 GND (power), J7 GND (power), J8 GND (power), J9 GND (power), J10 GND (power), K4 GND (power), K13 GND (power), M4 GND (power), M13 GND (power), N7 GND (power), N10 GND (power), P5 GND (power), P12 GND (power), R2 GND (power), R15 GND (power)
part M pins: D13 VCCD_PLL2 (power), E12 GNDA2 (power), F12 VCCA2 (power), L5 VCCA1 (power), M5 GNDA1 (power), N4 VCCD_PLL1 (power)
part A text: BANK 1
part B text: BANK 2
part C text: BANK 3
part D text: BANK 4
part E text: BANK 5
part F text: BANK 6
part G text: BANK 7
part H text: BANK 8

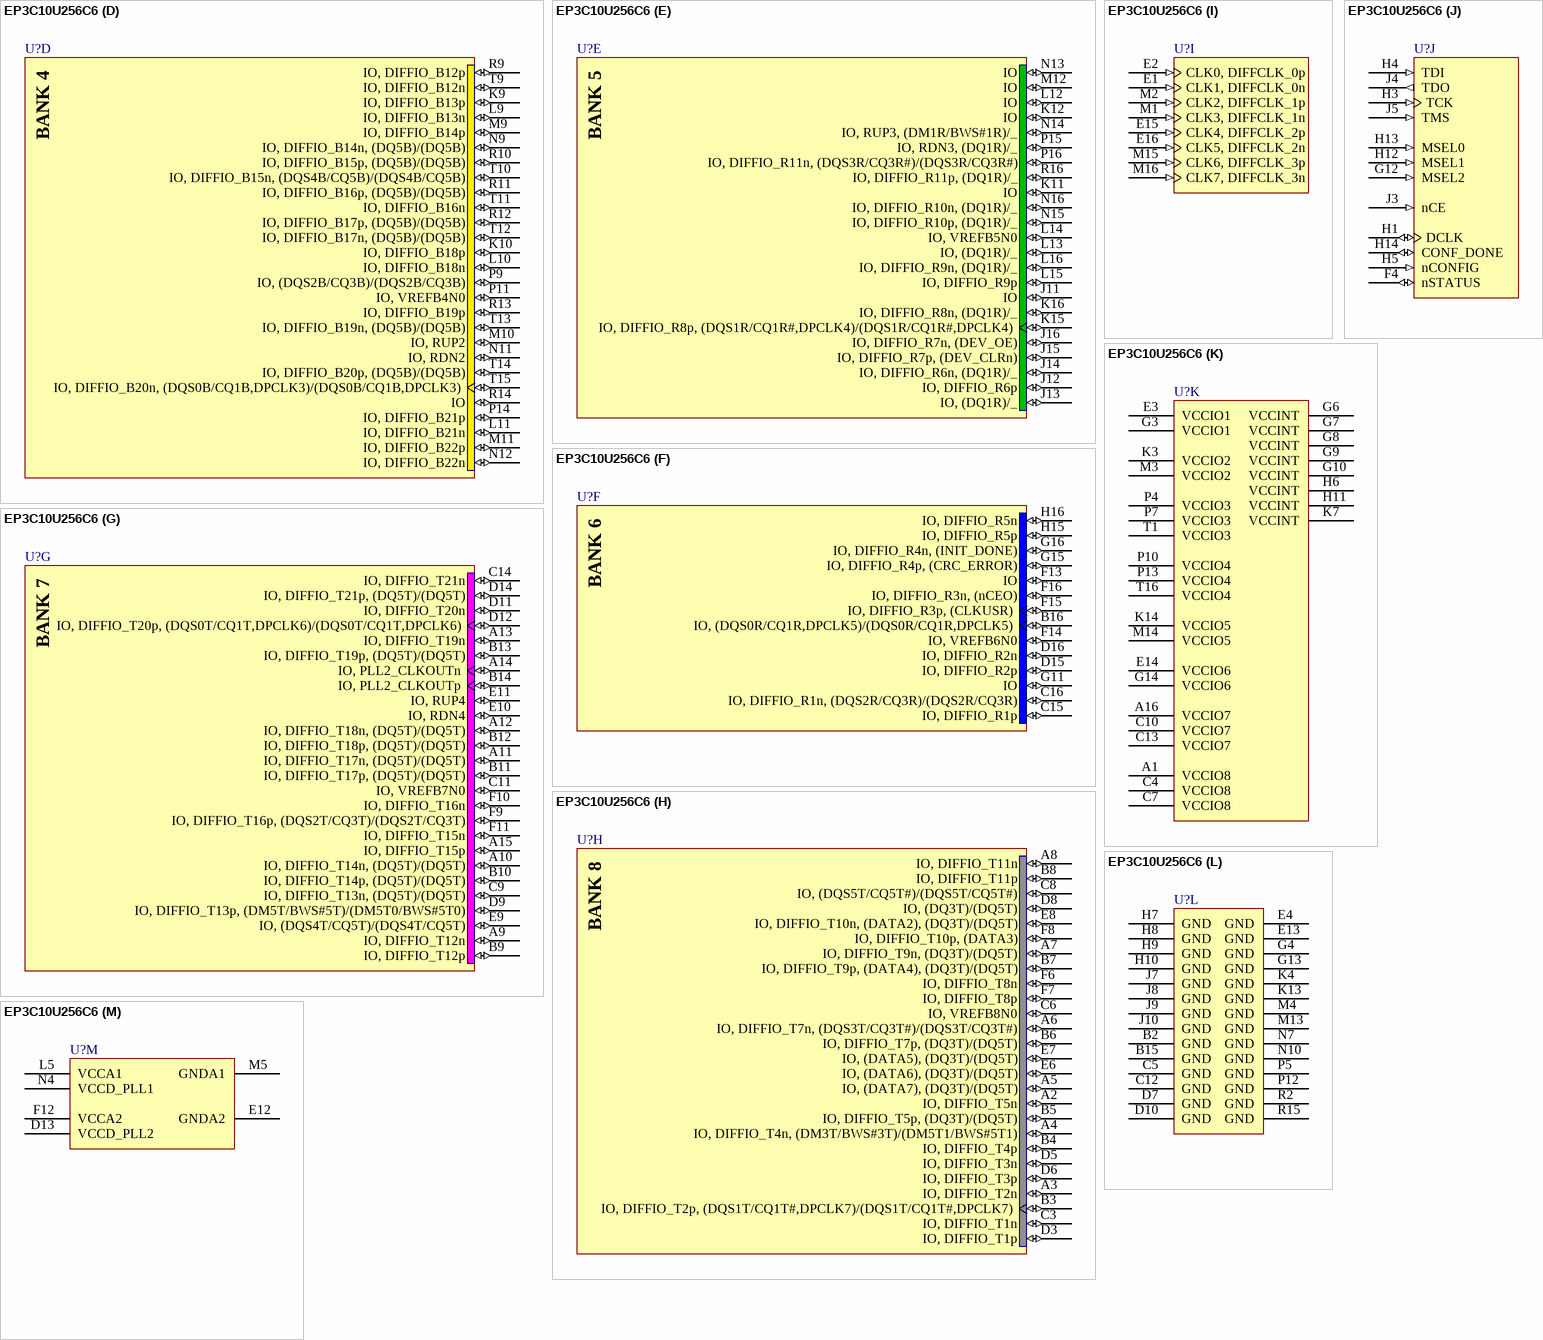
[diagram p51: symbol EP3C10U256C6]

## EP3C10U256C6
designator U?
Cyclone III Family FPGA, 182 I/O Pins, 4 PLLs, 256-Pin UFBGA, Speed Grade 6, Commercial Grade; DatasheetVersion: ver2.0, May-2008; PackageVersion: ver15.1, May-2008; PackageReference: UBGA256; PackageDescription: 256-Ball Ultra FineLine Ball Grid Array (UBGA) - Wire Bond; Code_JEDEC: MO-216-BAJ-2; ComponentLink1Description: Manufacturer URL; ComponentLink1URL: http://www.altera.com/; ComponentLink2Description: Handbook (7.86MB); ComponentLink2URL: http://www.altera.com/literature/hb/cyc3/cyclone3_handbook.pdf; ComponentLink3Description: Package Specification; ComponentLink3URL: http://www.altera.com/literature/ds/dspkg.pdf
footprint UBGA256 (BGA, 484-Leads, Body 19x19mm, Pitch 0.8mm)
part A pins: B1 IO, (DQS2L/CQ3L)/(DQS2L/CQ3L) (io), C1 IO, DIFFIO_L1n, (DATA1, ASDO) (io), C2 IO, DIFFIO_L1p (io), D1 IO, DIFFIO_L2n (io), D2 IO, DIFFIO_L2p, (FLASH_nCE, nCSO) (io), D4 IO (io), E5 IO (io), F1 IO, DIFFIO_L3n (io), F2 IO, DIFFIO_L3p (io), F3 IO, VREFB1N0 (io), F5 IO (io), G1 IO, DIFFIO_L4n (io), G2 IO, DIFFIO_L4p, (DQS0L/CQ1L,DPCLK0)/(DQS0L/CQ1L,DPCLK0) (io), G5 IO (io), H2 IO, (DATA0) (io)
part B pins: J1 IO, DIFFIO_L5n, (DQ1L)/_ (io), J2 IO, DIFFIO_L5p, (DQ1L)/_ (io), J6 IO (io), K1 IO, DIFFIO_L7n, (DQ1L)/_ (io), K2 IO, DIFFIO_L7p (io), K5 IO, RUP1, (DQ1L)/_ (io), K6 IO, DIFFIO_L6p (io), L1 IO, DIFFIO_L8n, (DQ1L)/_ (io), L2 IO, DIFFIO_L8p, (DQS1L/CQ1L#,DPCLK1)/(DQS1L/CQ1L#,DPCLK1) (io), L3 IO, VREFB2N0 (io), L4 IO, RDN1, (DQ1L)/_ (io), L6 IO, DIFFIO_L6n (io), N1 IO, DIFFIO_L9n, (DQ1L)/_ (io), N2 IO, DIFFIO_L9p, (DQ1L)/_ (io), P1 IO, DIFFIO_L10n, (DM1L/BWS#1L)/_ (io), P2 IO, DIFFIO_L10p, (DQ1L)/_ (io), R1 IO, (DQS3L/CQ3L#)/(DQS3L/CQ3L#) (io)
part C pins: K8 IO, DIFFIO_B5n (io), L7 IO, (DQ3B)/(DQ5B) (io), L8 IO, DIFFIO_B9p, (DQ3B)/(DQ5B) (io), M6 IO, (DQ3B)/(DQ5B) (io), M7 IO, DIFFIO_B5p, (DQS3B/CQ3B#)/(DQS3B/CQ3B#) (io), M8 IO, DIFFIO_B9n, (DM5B/BWS#5B)/(DM5B0/BWS#5B0) (io), N3 IO, DIFFIO_B1p (io), N5 IO, DIFFIO_B4p, (DQ3B)/(DQ5B) (io), N6 IO, DIFFIO_B4n, (DQ3B)/(DQ5B) (io), N8 IO, DIFFIO_B10p, (DQ5B)/(DQ5B) (io), P3 IO, DIFFIO_B1n, (DM3B/BWS#3B)/(DM5B1/BWS#5B1) (io), P6 IO, VREFB3N0 (io), P8 IO, DIFFIO_B10n, (DQ5B)/(DQ5B) (io), R3 IO, DIFFIO_B2p, (DQ3B)/(DQ5B) (io), R4 IO, PLL1_CLKOUTp (io), R5 IO, DIFFIO_B6p, (DQ3B)/(DQ5B) (io), R6 IO, DIFFIO_B7p, (DQ3B)/(DQ5B) (io), R7 IO, DIFFIO_B8p, (DQ3B)/(DQ5B) (io), R8 IO, DIFFIO_B11p (io), T2 IO, (DQS1B/CQ1B#,DPCLK2)/(DQS1B/CQ1B#,DPCLK2) (io), T3 IO, DIFFIO_B2n (io), T4 IO, PLL1_CLKOUTn (io), T5 IO, DIFFIO_B6n (io), T6 IO, DIFFIO_B7n (io), T7 IO, DIFFIO_B8n, (DQS5B/CQ5B#)/(DQS5B/CQ5B#) (io), T8 IO, DIFFIO_B11n (io)
part D pins: K9 IO, DIFFIO_B13p (io), K10 IO, DIFFIO_B18p (io), L9 IO, DIFFIO_B13n (io), L10 IO, DIFFIO_B18n (io), L11 IO, DIFFIO_B21n (io), M9 IO, DIFFIO_B14p (io), M10 IO, RUP2 (io), M11 IO, DIFFIO_B22p (io), N9 IO, DIFFIO_B14n, (DQ5B)/(DQ5B) (io), N11 IO, RDN2 (io), N12 IO, DIFFIO_B22n (io), P9 IO, (DQS2B/CQ3B)/(DQS2B/CQ3B) (io), P11 IO, VREFB4N0 (io), P14 IO, DIFFIO_B21p (io), R9 IO, DIFFIO_B12p (io), R10 IO, DIFFIO_B15p, (DQ5B)/(DQ5B) (io), R11 IO, DIFFIO_B16p, (DQ5B)/(DQ5B) (io), R12 IO, DIFFIO_B17p, (DQ5B)/(DQ5B) (io), R13 IO, DIFFIO_B19p (io), R14 IO (io), T9 IO, DIFFIO_B12n (io), T10 IO, DIFFIO_B15n, (DQS4B/CQ5B)/(DQS4B/CQ5B) (io), T11 IO, DIFFIO_B16n (io), T12 IO, DIFFIO_B17n, (DQ5B)/(DQ5B) (io), T13 IO, DIFFIO_B19n, (DQ5B)/(DQ5B) (io), T14 IO, DIFFIO_B20p, (DQ5B)/(DQ5B) (io), T15 IO, DIFFIO_B20n, (DQS0B/CQ1B,DPCLK3)/(DQS0B/CQ1B,DPCLK3) (io)
part E pins: J11 IO (io), J12 IO, DIFFIO_R6p (io), J13 IO, (DQ1R)/_ (io), J14 IO, DIFFIO_R6n, (DQ1R)/_ (io), J15 IO, DIFFIO_R7p, (DEV_CLRn) (io), J16 IO, DIFFIO_R7n, (DEV_OE) (io), K11 IO (io), K12 IO (io), K15 IO, DIFFIO_R8p, (DQS1R/CQ1R#,DPCLK4)/(DQS1R/CQ1R#,DPCLK4) (io), K16 IO, DIFFIO_R8n, (DQ1R)/_ (io), L12 IO (io), L13 IO, (DQ1R)/_ (io), L14 IO, VREFB5N0 (io), L15 IO, DIFFIO_R9p (io), L16 IO, DIFFIO_R9n, (DQ1R)/_ (io), M12 IO (io), N13 IO (io), N14 IO, RUP3, (DM1R/BWS#1R)/_ (io), N15 IO, DIFFIO_R10p, (DQ1R)/_ (io), N16 IO, DIFFIO_R10n, (DQ1R)/_ (io), P15 IO, RDN3, (DQ1R)/_ (io), P16 IO, DIFFIO_R11n, (DQS3R/CQ3R#)/(DQS3R/CQ3R#) (io), R16 IO, DIFFIO_R11p, (DQ1R)/_ (io)
part F pins: B16 IO, (DQS0R/CQ1R,DPCLK5)/(DQS0R/CQ1R,DPCLK5) (io), C15 IO, DIFFIO_R1p (io), C16 IO, DIFFIO_R1n, (DQS2R/CQ3R)/(DQS2R/CQ3R) (io), D15 IO, DIFFIO_R2p (io), D16 IO, DIFFIO_R2n (io), F13 IO (io), F14 IO, VREFB6N0 (io), F15 IO, DIFFIO_R3p, (CLKUSR) (io), F16 IO, DIFFIO_R3n, (nCEO) (io), G11 IO (io), G15 IO, DIFFIO_R4p, (CRC_ERROR) (io), G16 IO, DIFFIO_R4n, (INIT_DONE) (io), H15 IO, DIFFIO_R5p (io), H16 IO, DIFFIO_R5n (io)
part G pins: A9 IO, DIFFIO_T12n (io), A10 IO, DIFFIO_T14n, (DQ5T)/(DQ5T) (io), A11 IO, DIFFIO_T17n, (DQ5T)/(DQ5T) (io), A12 IO, DIFFIO_T18n, (DQ5T)/(DQ5T) (io), A13 IO, DIFFIO_T19n (io), A14 IO, PLL2_CLKOUTn (io), A15 IO, DIFFIO_T15p (io), B9 IO, DIFFIO_T12p (io), B10 IO, DIFFIO_T14p, (DQ5T)/(DQ5T) (io), B11 IO, DIFFIO_T17p, (DQ5T)/(DQ5T) (io), B12 IO, DIFFIO_T18p, (DQ5T)/(DQ5T) (io), B13 IO, DIFFIO_T19p, (DQ5T)/(DQ5T) (io), B14 IO, PLL2_CLKOUTp (io), C9 IO, DIFFIO_T13n, (DQ5T)/(DQ5T) (io), C11 IO, VREFB7N0 (io), C14 IO, DIFFIO_T21n (io), D9 IO, DIFFIO_T13p, (DM5T/BWS#5T)/(DM5T0/BWS#5T0) (io), D11 IO, DIFFIO_T20n (io), D12 IO, DIFFIO_T20p, (DQS0T/CQ1T,DPCLK6)/(DQS0T/CQ1T,DPCLK6) (io), D14 IO, DIFFIO_T21p, (DQ5T)/(DQ5T) (io), E9 IO, (DQS4T/CQ5T)/(DQS4T/CQ5T) (io), E10 IO, RDN4 (io), E11 IO, RUP4 (io), F9 IO, DIFFIO_T16p, (DQS2T/CQ3T)/(DQS2T/CQ3T) (io), F10 IO, DIFFIO_T16n (io), F11 IO, DIFFIO_T15n (io)
part H pins: A2 IO, DIFFIO_T5n (io), A3 IO, DIFFIO_T2n (io), A4 IO, DIFFIO_T4n, (DM3T/BWS#3T)/(DM5T1/BWS#5T1) (io), A5 IO, (DATA7), (DQ3T)/(DQ5T) (io), A6 IO, DIFFIO_T7n, (DQS3T/CQ3T#)/(DQS3T/CQ3T#) (io), A7 IO, DIFFIO_T9n, (DQ3T)/(DQ5T) (io), A8 IO, DIFFIO_T11n (io), B3 IO, DIFFIO_T2p, (DQS1T/CQ1T#,DPCLK7)/(DQS1T/CQ1T#,DPCLK7) (io), B4 IO, DIFFIO_T4p (io), B5 IO, DIFFIO_T5p, (DQ3T)/(DQ5T) (io), B6 IO, DIFFIO_T7p, (DQ3T)/(DQ5T) (io), B7 IO, DIFFIO_T9p, (DATA4), (DQ3T)/(DQ5T) (io), B8 IO, DIFFIO_T11p (io), C3 IO, DIFFIO_T1n (io), C6 IO, VREFB8N0 (io), C8 IO, (DQS5T/CQ5T#)/(DQS5T/CQ5T#) (io), D3 IO, DIFFIO_T1p (io), D5 IO, DIFFIO_T3n (io), D6 IO, DIFFIO_T3p (io), D8 IO, (DQ3T)/(DQ5T) (io), E6 IO, (DATA6), (DQ3T)/(DQ5T) (io), E7 IO, (DATA5), (DQ3T)/(DQ5T) (io), E8 IO, DIFFIO_T10n, (DATA2), (DQ3T)/(DQ5T) (io), F6 IO, DIFFIO_T8n (io), F7 IO, DIFFIO_T8p (io), F8 IO, DIFFIO_T10p, (DATA3) (io)
part I pins: E1 CLK1, DIFFCLK_0n (in), E2 CLK0, DIFFCLK_0p (in), E15 CLK4, DIFFCLK_2p (in), E16 CLK5, DIFFCLK_2n (in), M1 CLK3, DIFFCLK_1n (in), M2 CLK2, DIFFCLK_1p (in), M15 CLK6, DIFFCLK_3p (in), M16 CLK7, DIFFCLK_3n (in)
part J pins: F4 nSTATUS (io), G12 MSEL2 (in), H1 DCLK (io), H3 TCK (in), H4 TDI (in), H5 nCONFIG (in), H12 MSEL1 (in), H13 MSEL0 (in), H14 CONF_DONE (io), J3 nCE (in), J4 TDO (out), J5 TMS (in)
part K pins: A1 VCCIO8 (power), A16 VCCIO7 (power), C4 VCCIO8 (power), C7 VCCIO8 (power), C10 VCCIO7 (power), C13 VCCIO7 (power), E3 VCCIO1 (power), E14 VCCIO6 (power), G3 VCCIO1 (power), G6 VCCINT (power), G7 VCCINT (power), G8 VCCINT (power), G9 VCCINT (power), G10 VCCINT (power), G14 VCCIO6 (power), H6 VCCINT (power), H11 VCCINT (power), K3 VCCIO2 (power), K7 VCCINT (power), K14 VCCIO5 (power), M3 VCCIO2 (power), M14 VCCIO5 (power), P4 VCCIO3 (power), P7 VCCIO3 (power), P10 VCCIO4 (power), P13 VCCIO4 (power), T1 VCCIO3 (power), T16 VCCIO4 (power)
part L pins: B2 GND (power), B15 GND (power), C5 GND (power), C12 GND (power), D7 GND (power), D10 GND (power), E4 GND (power), E13 GND (power), G4 GND (power), G13 GND (power), H7 GND (power), H8 GND (power), H9 GND (power), H10 GND (power), J7 GND (power), J8 GND (power), J9 GND (power), J10 GND (power), K4 GND (power), K13 GND (power), M4 GND (power), M13 GND (power), N7 GND (power), N10 GND (power), P5 GND (power), P12 GND (power), R2 GND (power), R15 GND (power)
part M pins: D13 VCCD_PLL2 (power), E12 GNDA2 (power), F12 VCCA2 (power), L5 VCCA1 (power), M5 GNDA1 (power), N4 VCCD_PLL1 (power)
part A text: BANK 1
part B text: BANK 2
part C text: BANK 3
part D text: BANK 4
part E text: BANK 5
part F text: BANK 6
part G text: BANK 7
part H text: BANK 8

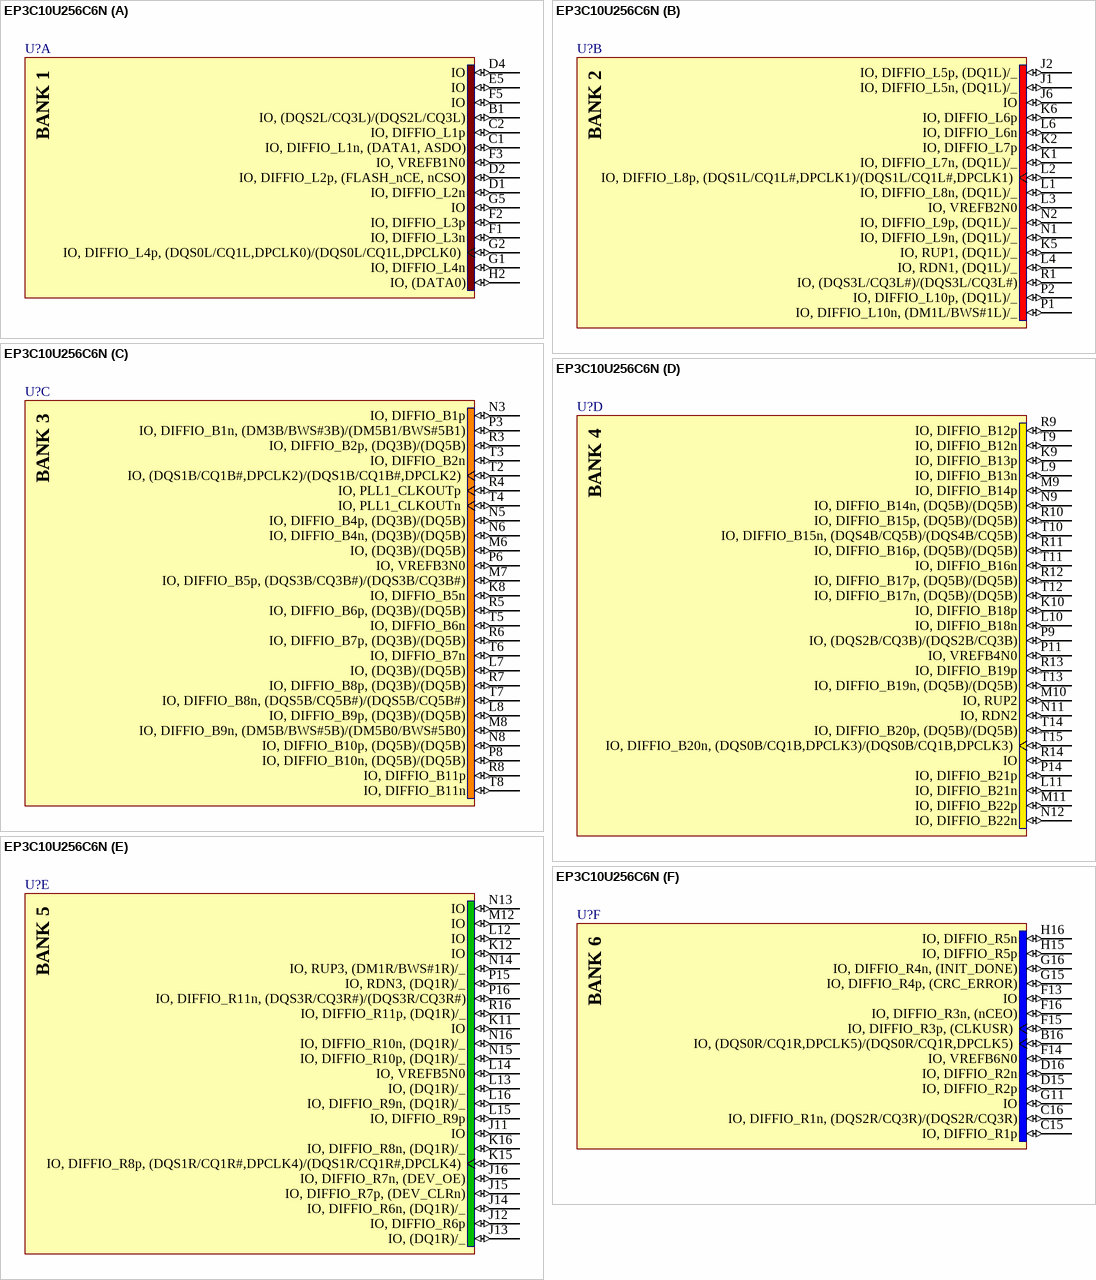
[diagram p52: symbol EP3C10U256C6N]

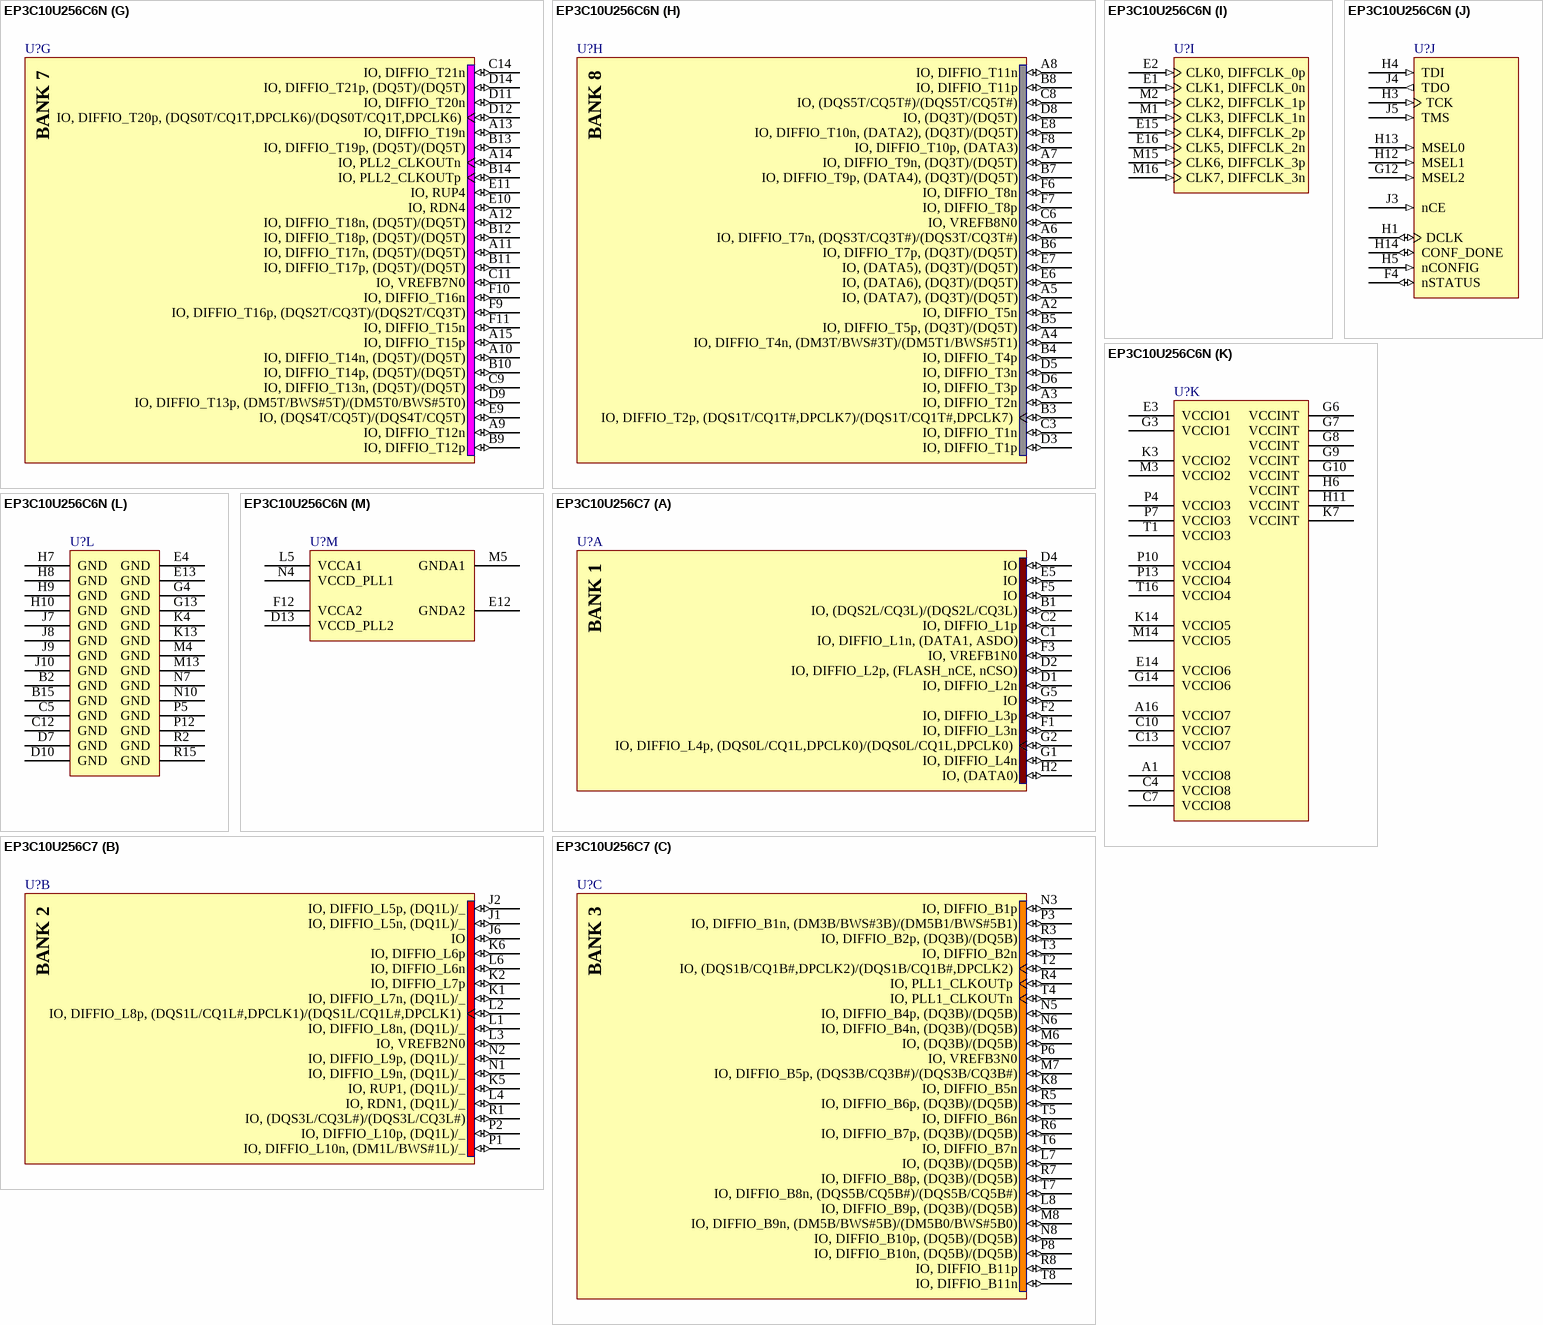
[diagram p53: symbols EP3C10U256C6N to EP3C10U256C7]

## EP3C10U256C6N
designator U?
Cyclone III Family FPGA, 182 I/O Pins, 4 PLLs, 256-Pin UFBGA, Speed Grade 6, Commercial Grade, Pb-Free; DatasheetVersion: ver2.0, May-2008; PackageVersion: ver15.1, May-2008; PackageReference: UBGA256; PackageDescription: 256-Ball Ultra FineLine Ball Grid Array (UBGA) - Wire Bond; Code_JEDEC: MO-216-BAJ-2; ComponentLink1Description: Manufacturer URL; ComponentLink1URL: http://www.altera.com/; ComponentLink2Description: Handbook (7.86MB); ComponentLink2URL: http://www.altera.com/literature/hb/cyc3/cyclone3_handbook.pdf; ComponentLink3Description: Package Specification; ComponentLink3URL: http://www.altera.com/literature/ds/dspkg.pdf
footprint UBGA256 (BGA, 484-Leads, Body 19x19mm, Pitch 0.8mm)
part A pins: B1 IO, (DQS2L/CQ3L)/(DQS2L/CQ3L) (io), C1 IO, DIFFIO_L1n, (DATA1, ASDO) (io), C2 IO, DIFFIO_L1p (io), D1 IO, DIFFIO_L2n (io), D2 IO, DIFFIO_L2p, (FLASH_nCE, nCSO) (io), D4 IO (io), E5 IO (io), F1 IO, DIFFIO_L3n (io), F2 IO, DIFFIO_L3p (io), F3 IO, VREFB1N0 (io), F5 IO (io), G1 IO, DIFFIO_L4n (io), G2 IO, DIFFIO_L4p, (DQS0L/CQ1L,DPCLK0)/(DQS0L/CQ1L,DPCLK0) (io), G5 IO (io), H2 IO, (DATA0) (io)
part B pins: J1 IO, DIFFIO_L5n, (DQ1L)/_ (io), J2 IO, DIFFIO_L5p, (DQ1L)/_ (io), J6 IO (io), K1 IO, DIFFIO_L7n, (DQ1L)/_ (io), K2 IO, DIFFIO_L7p (io), K5 IO, RUP1, (DQ1L)/_ (io), K6 IO, DIFFIO_L6p (io), L1 IO, DIFFIO_L8n, (DQ1L)/_ (io), L2 IO, DIFFIO_L8p, (DQS1L/CQ1L#,DPCLK1)/(DQS1L/CQ1L#,DPCLK1) (io), L3 IO, VREFB2N0 (io), L4 IO, RDN1, (DQ1L)/_ (io), L6 IO, DIFFIO_L6n (io), N1 IO, DIFFIO_L9n, (DQ1L)/_ (io), N2 IO, DIFFIO_L9p, (DQ1L)/_ (io), P1 IO, DIFFIO_L10n, (DM1L/BWS#1L)/_ (io), P2 IO, DIFFIO_L10p, (DQ1L)/_ (io), R1 IO, (DQS3L/CQ3L#)/(DQS3L/CQ3L#) (io)
part C pins: K8 IO, DIFFIO_B5n (io), L7 IO, (DQ3B)/(DQ5B) (io), L8 IO, DIFFIO_B9p, (DQ3B)/(DQ5B) (io), M6 IO, (DQ3B)/(DQ5B) (io), M7 IO, DIFFIO_B5p, (DQS3B/CQ3B#)/(DQS3B/CQ3B#) (io), M8 IO, DIFFIO_B9n, (DM5B/BWS#5B)/(DM5B0/BWS#5B0) (io), N3 IO, DIFFIO_B1p (io), N5 IO, DIFFIO_B4p, (DQ3B)/(DQ5B) (io), N6 IO, DIFFIO_B4n, (DQ3B)/(DQ5B) (io), N8 IO, DIFFIO_B10p, (DQ5B)/(DQ5B) (io), P3 IO, DIFFIO_B1n, (DM3B/BWS#3B)/(DM5B1/BWS#5B1) (io), P6 IO, VREFB3N0 (io), P8 IO, DIFFIO_B10n, (DQ5B)/(DQ5B) (io), R3 IO, DIFFIO_B2p, (DQ3B)/(DQ5B) (io), R4 IO, PLL1_CLKOUTp (io), R5 IO, DIFFIO_B6p, (DQ3B)/(DQ5B) (io), R6 IO, DIFFIO_B7p, (DQ3B)/(DQ5B) (io), R7 IO, DIFFIO_B8p, (DQ3B)/(DQ5B) (io), R8 IO, DIFFIO_B11p (io), T2 IO, (DQS1B/CQ1B#,DPCLK2)/(DQS1B/CQ1B#,DPCLK2) (io), T3 IO, DIFFIO_B2n (io), T4 IO, PLL1_CLKOUTn (io), T5 IO, DIFFIO_B6n (io), T6 IO, DIFFIO_B7n (io), T7 IO, DIFFIO_B8n, (DQS5B/CQ5B#)/(DQS5B/CQ5B#) (io), T8 IO, DIFFIO_B11n (io)
part D pins: K9 IO, DIFFIO_B13p (io), K10 IO, DIFFIO_B18p (io), L9 IO, DIFFIO_B13n (io), L10 IO, DIFFIO_B18n (io), L11 IO, DIFFIO_B21n (io), M9 IO, DIFFIO_B14p (io), M10 IO, RUP2 (io), M11 IO, DIFFIO_B22p (io), N9 IO, DIFFIO_B14n, (DQ5B)/(DQ5B) (io), N11 IO, RDN2 (io), N12 IO, DIFFIO_B22n (io), P9 IO, (DQS2B/CQ3B)/(DQS2B/CQ3B) (io), P11 IO, VREFB4N0 (io), P14 IO, DIFFIO_B21p (io), R9 IO, DIFFIO_B12p (io), R10 IO, DIFFIO_B15p, (DQ5B)/(DQ5B) (io), R11 IO, DIFFIO_B16p, (DQ5B)/(DQ5B) (io), R12 IO, DIFFIO_B17p, (DQ5B)/(DQ5B) (io), R13 IO, DIFFIO_B19p (io), R14 IO (io), T9 IO, DIFFIO_B12n (io), T10 IO, DIFFIO_B15n, (DQS4B/CQ5B)/(DQS4B/CQ5B) (io), T11 IO, DIFFIO_B16n (io), T12 IO, DIFFIO_B17n, (DQ5B)/(DQ5B) (io), T13 IO, DIFFIO_B19n, (DQ5B)/(DQ5B) (io), T14 IO, DIFFIO_B20p, (DQ5B)/(DQ5B) (io), T15 IO, DIFFIO_B20n, (DQS0B/CQ1B,DPCLK3)/(DQS0B/CQ1B,DPCLK3) (io)
part E pins: J11 IO (io), J12 IO, DIFFIO_R6p (io), J13 IO, (DQ1R)/_ (io), J14 IO, DIFFIO_R6n, (DQ1R)/_ (io), J15 IO, DIFFIO_R7p, (DEV_CLRn) (io), J16 IO, DIFFIO_R7n, (DEV_OE) (io), K11 IO (io), K12 IO (io), K15 IO, DIFFIO_R8p, (DQS1R/CQ1R#,DPCLK4)/(DQS1R/CQ1R#,DPCLK4) (io), K16 IO, DIFFIO_R8n, (DQ1R)/_ (io), L12 IO (io), L13 IO, (DQ1R)/_ (io), L14 IO, VREFB5N0 (io), L15 IO, DIFFIO_R9p (io), L16 IO, DIFFIO_R9n, (DQ1R)/_ (io), M12 IO (io), N13 IO (io), N14 IO, RUP3, (DM1R/BWS#1R)/_ (io), N15 IO, DIFFIO_R10p, (DQ1R)/_ (io), N16 IO, DIFFIO_R10n, (DQ1R)/_ (io), P15 IO, RDN3, (DQ1R)/_ (io), P16 IO, DIFFIO_R11n, (DQS3R/CQ3R#)/(DQS3R/CQ3R#) (io), R16 IO, DIFFIO_R11p, (DQ1R)/_ (io)
part F pins: B16 IO, (DQS0R/CQ1R,DPCLK5)/(DQS0R/CQ1R,DPCLK5) (io), C15 IO, DIFFIO_R1p (io), C16 IO, DIFFIO_R1n, (DQS2R/CQ3R)/(DQS2R/CQ3R) (io), D15 IO, DIFFIO_R2p (io), D16 IO, DIFFIO_R2n (io), F13 IO (io), F14 IO, VREFB6N0 (io), F15 IO, DIFFIO_R3p, (CLKUSR) (io), F16 IO, DIFFIO_R3n, (nCEO) (io), G11 IO (io), G15 IO, DIFFIO_R4p, (CRC_ERROR) (io), G16 IO, DIFFIO_R4n, (INIT_DONE) (io), H15 IO, DIFFIO_R5p (io), H16 IO, DIFFIO_R5n (io)
part G pins: A9 IO, DIFFIO_T12n (io), A10 IO, DIFFIO_T14n, (DQ5T)/(DQ5T) (io), A11 IO, DIFFIO_T17n, (DQ5T)/(DQ5T) (io), A12 IO, DIFFIO_T18n, (DQ5T)/(DQ5T) (io), A13 IO, DIFFIO_T19n (io), A14 IO, PLL2_CLKOUTn (io), A15 IO, DIFFIO_T15p (io), B9 IO, DIFFIO_T12p (io), B10 IO, DIFFIO_T14p, (DQ5T)/(DQ5T) (io), B11 IO, DIFFIO_T17p, (DQ5T)/(DQ5T) (io), B12 IO, DIFFIO_T18p, (DQ5T)/(DQ5T) (io), B13 IO, DIFFIO_T19p, (DQ5T)/(DQ5T) (io), B14 IO, PLL2_CLKOUTp (io), C9 IO, DIFFIO_T13n, (DQ5T)/(DQ5T) (io), C11 IO, VREFB7N0 (io), C14 IO, DIFFIO_T21n (io), D9 IO, DIFFIO_T13p, (DM5T/BWS#5T)/(DM5T0/BWS#5T0) (io), D11 IO, DIFFIO_T20n (io), D12 IO, DIFFIO_T20p, (DQS0T/CQ1T,DPCLK6)/(DQS0T/CQ1T,DPCLK6) (io), D14 IO, DIFFIO_T21p, (DQ5T)/(DQ5T) (io), E9 IO, (DQS4T/CQ5T)/(DQS4T/CQ5T) (io), E10 IO, RDN4 (io), E11 IO, RUP4 (io), F9 IO, DIFFIO_T16p, (DQS2T/CQ3T)/(DQS2T/CQ3T) (io), F10 IO, DIFFIO_T16n (io), F11 IO, DIFFIO_T15n (io)
part H pins: A2 IO, DIFFIO_T5n (io), A3 IO, DIFFIO_T2n (io), A4 IO, DIFFIO_T4n, (DM3T/BWS#3T)/(DM5T1/BWS#5T1) (io), A5 IO, (DATA7), (DQ3T)/(DQ5T) (io), A6 IO, DIFFIO_T7n, (DQS3T/CQ3T#)/(DQS3T/CQ3T#) (io), A7 IO, DIFFIO_T9n, (DQ3T)/(DQ5T) (io), A8 IO, DIFFIO_T11n (io), B3 IO, DIFFIO_T2p, (DQS1T/CQ1T#,DPCLK7)/(DQS1T/CQ1T#,DPCLK7) (io), B4 IO, DIFFIO_T4p (io), B5 IO, DIFFIO_T5p, (DQ3T)/(DQ5T) (io), B6 IO, DIFFIO_T7p, (DQ3T)/(DQ5T) (io), B7 IO, DIFFIO_T9p, (DATA4), (DQ3T)/(DQ5T) (io), B8 IO, DIFFIO_T11p (io), C3 IO, DIFFIO_T1n (io), C6 IO, VREFB8N0 (io), C8 IO, (DQS5T/CQ5T#)/(DQS5T/CQ5T#) (io), D3 IO, DIFFIO_T1p (io), D5 IO, DIFFIO_T3n (io), D6 IO, DIFFIO_T3p (io), D8 IO, (DQ3T)/(DQ5T) (io), E6 IO, (DATA6), (DQ3T)/(DQ5T) (io), E7 IO, (DATA5), (DQ3T)/(DQ5T) (io), E8 IO, DIFFIO_T10n, (DATA2), (DQ3T)/(DQ5T) (io), F6 IO, DIFFIO_T8n (io), F7 IO, DIFFIO_T8p (io), F8 IO, DIFFIO_T10p, (DATA3) (io)
part I pins: E1 CLK1, DIFFCLK_0n (in), E2 CLK0, DIFFCLK_0p (in), E15 CLK4, DIFFCLK_2p (in), E16 CLK5, DIFFCLK_2n (in), M1 CLK3, DIFFCLK_1n (in), M2 CLK2, DIFFCLK_1p (in), M15 CLK6, DIFFCLK_3p (in), M16 CLK7, DIFFCLK_3n (in)
part J pins: F4 nSTATUS (io), G12 MSEL2 (in), H1 DCLK (io), H3 TCK (in), H4 TDI (in), H5 nCONFIG (in), H12 MSEL1 (in), H13 MSEL0 (in), H14 CONF_DONE (io), J3 nCE (in), J4 TDO (out), J5 TMS (in)
part K pins: A1 VCCIO8 (power), A16 VCCIO7 (power), C4 VCCIO8 (power), C7 VCCIO8 (power), C10 VCCIO7 (power), C13 VCCIO7 (power), E3 VCCIO1 (power), E14 VCCIO6 (power), G3 VCCIO1 (power), G6 VCCINT (power), G7 VCCINT (power), G8 VCCINT (power), G9 VCCINT (power), G10 VCCINT (power), G14 VCCIO6 (power), H6 VCCINT (power), H11 VCCINT (power), K3 VCCIO2 (power), K7 VCCINT (power), K14 VCCIO5 (power), M3 VCCIO2 (power), M14 VCCIO5 (power), P4 VCCIO3 (power), P7 VCCIO3 (power), P10 VCCIO4 (power), P13 VCCIO4 (power), T1 VCCIO3 (power), T16 VCCIO4 (power)
part L pins: B2 GND (power), B15 GND (power), C5 GND (power), C12 GND (power), D7 GND (power), D10 GND (power), E4 GND (power), E13 GND (power), G4 GND (power), G13 GND (power), H7 GND (power), H8 GND (power), H9 GND (power), H10 GND (power), J7 GND (power), J8 GND (power), J9 GND (power), J10 GND (power), K4 GND (power), K13 GND (power), M4 GND (power), M13 GND (power), N7 GND (power), N10 GND (power), P5 GND (power), P12 GND (power), R2 GND (power), R15 GND (power)
part M pins: D13 VCCD_PLL2 (power), E12 GNDA2 (power), F12 VCCA2 (power), L5 VCCA1 (power), M5 GNDA1 (power), N4 VCCD_PLL1 (power)
part A text: BANK 1
part B text: BANK 2
part C text: BANK 3
part D text: BANK 4
part E text: BANK 5
part F text: BANK 6
part G text: BANK 7
part H text: BANK 8

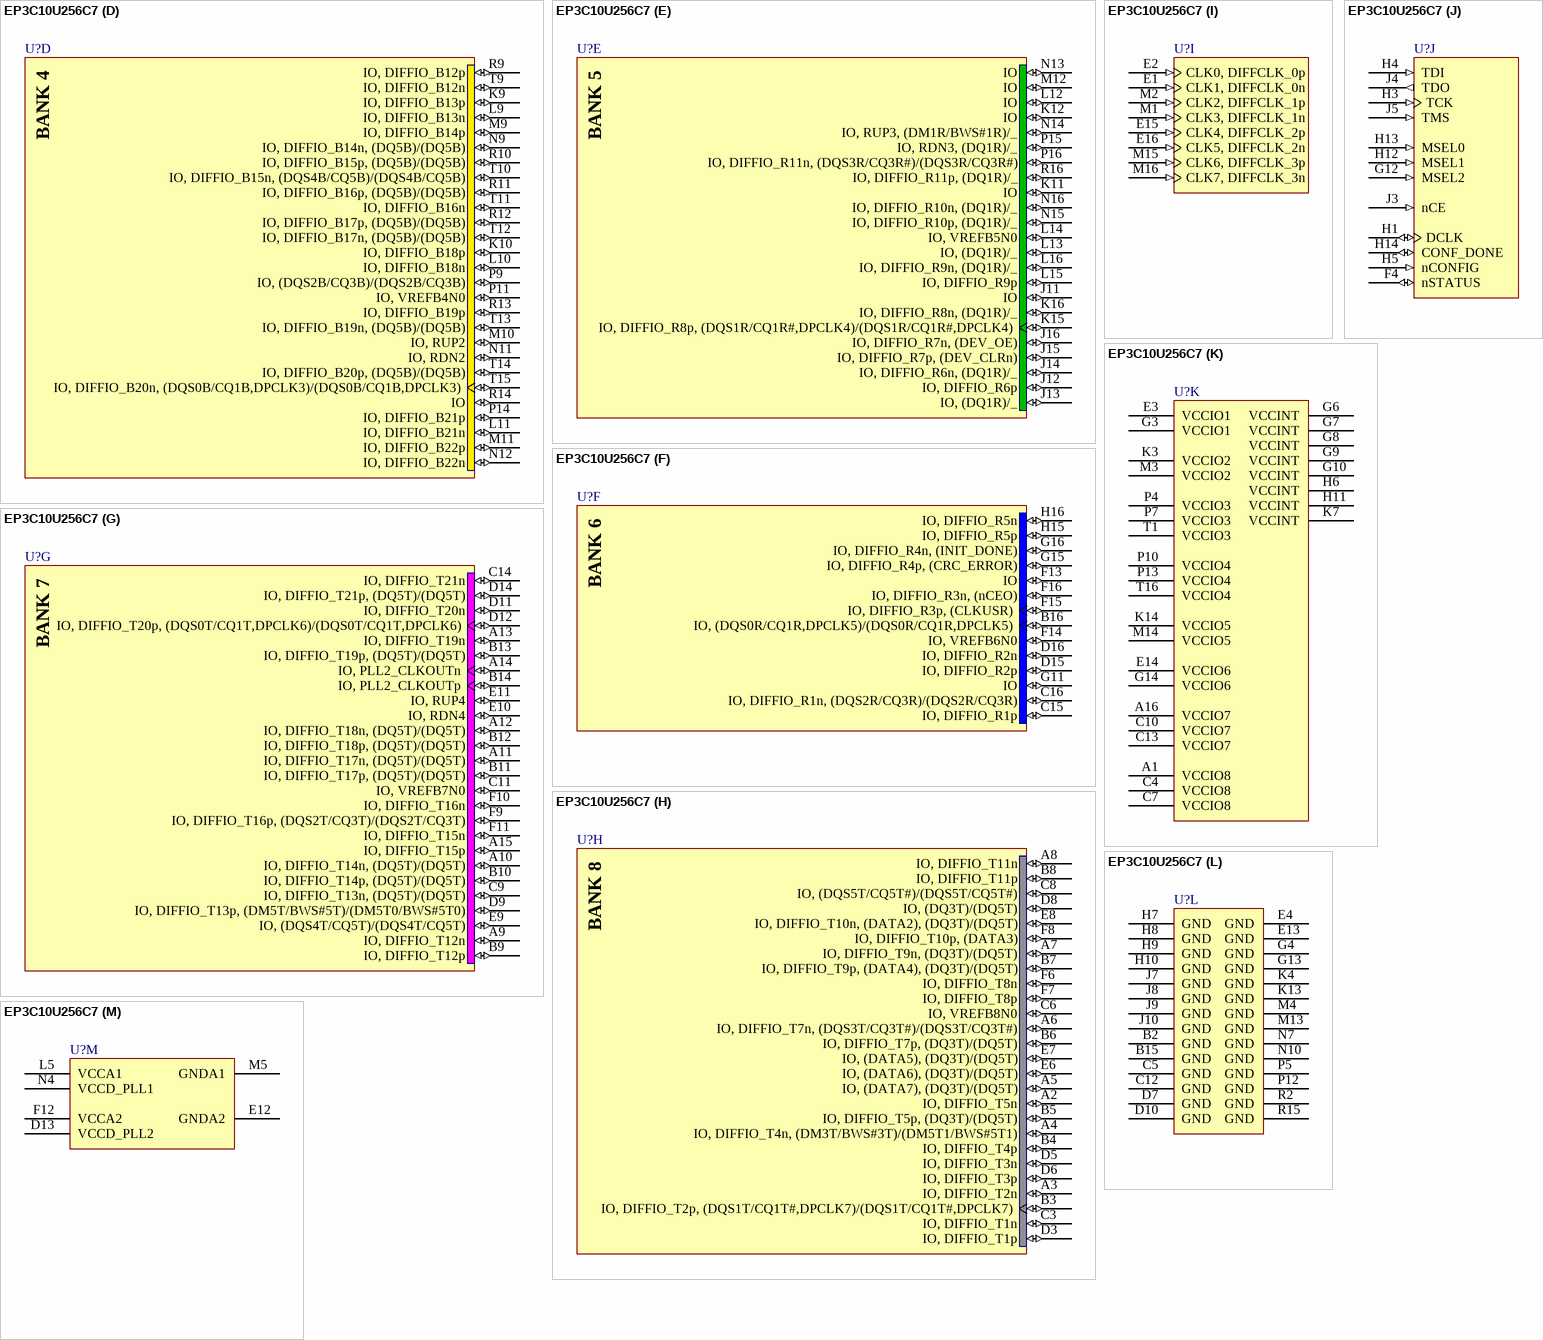
[diagram p54: symbol EP3C10U256C7]

## EP3C10U256C7
designator U?
Cyclone III Family FPGA, 182 I/O Pins, 4 PLLs, 256-Pin UFBGA, Speed Grade 7, Commercial Grade; DatasheetVersion: ver2.0, May-2008; PackageVersion: ver15.1, May-2008; PackageReference: UBGA256; PackageDescription: 256-Ball Ultra FineLine Ball Grid Array (UBGA) - Wire Bond; Code_JEDEC: MO-216-BAJ-2; ComponentLink1Description: Manufacturer URL; ComponentLink1URL: http://www.altera.com/; ComponentLink2Description: Handbook (7.86MB); ComponentLink2URL: http://www.altera.com/literature/hb/cyc3/cyclone3_handbook.pdf; ComponentLink3Description: Package Specification; ComponentLink3URL: http://www.altera.com/literature/ds/dspkg.pdf
footprint UBGA256 (BGA, 484-Leads, Body 19x19mm, Pitch 0.8mm)
part A pins: B1 IO, (DQS2L/CQ3L)/(DQS2L/CQ3L) (io), C1 IO, DIFFIO_L1n, (DATA1, ASDO) (io), C2 IO, DIFFIO_L1p (io), D1 IO, DIFFIO_L2n (io), D2 IO, DIFFIO_L2p, (FLASH_nCE, nCSO) (io), D4 IO (io), E5 IO (io), F1 IO, DIFFIO_L3n (io), F2 IO, DIFFIO_L3p (io), F3 IO, VREFB1N0 (io), F5 IO (io), G1 IO, DIFFIO_L4n (io), G2 IO, DIFFIO_L4p, (DQS0L/CQ1L,DPCLK0)/(DQS0L/CQ1L,DPCLK0) (io), G5 IO (io), H2 IO, (DATA0) (io)
part B pins: J1 IO, DIFFIO_L5n, (DQ1L)/_ (io), J2 IO, DIFFIO_L5p, (DQ1L)/_ (io), J6 IO (io), K1 IO, DIFFIO_L7n, (DQ1L)/_ (io), K2 IO, DIFFIO_L7p (io), K5 IO, RUP1, (DQ1L)/_ (io), K6 IO, DIFFIO_L6p (io), L1 IO, DIFFIO_L8n, (DQ1L)/_ (io), L2 IO, DIFFIO_L8p, (DQS1L/CQ1L#,DPCLK1)/(DQS1L/CQ1L#,DPCLK1) (io), L3 IO, VREFB2N0 (io), L4 IO, RDN1, (DQ1L)/_ (io), L6 IO, DIFFIO_L6n (io), N1 IO, DIFFIO_L9n, (DQ1L)/_ (io), N2 IO, DIFFIO_L9p, (DQ1L)/_ (io), P1 IO, DIFFIO_L10n, (DM1L/BWS#1L)/_ (io), P2 IO, DIFFIO_L10p, (DQ1L)/_ (io), R1 IO, (DQS3L/CQ3L#)/(DQS3L/CQ3L#) (io)
part C pins: K8 IO, DIFFIO_B5n (io), L7 IO, (DQ3B)/(DQ5B) (io), L8 IO, DIFFIO_B9p, (DQ3B)/(DQ5B) (io), M6 IO, (DQ3B)/(DQ5B) (io), M7 IO, DIFFIO_B5p, (DQS3B/CQ3B#)/(DQS3B/CQ3B#) (io), M8 IO, DIFFIO_B9n, (DM5B/BWS#5B)/(DM5B0/BWS#5B0) (io), N3 IO, DIFFIO_B1p (io), N5 IO, DIFFIO_B4p, (DQ3B)/(DQ5B) (io), N6 IO, DIFFIO_B4n, (DQ3B)/(DQ5B) (io), N8 IO, DIFFIO_B10p, (DQ5B)/(DQ5B) (io), P3 IO, DIFFIO_B1n, (DM3B/BWS#3B)/(DM5B1/BWS#5B1) (io), P6 IO, VREFB3N0 (io), P8 IO, DIFFIO_B10n, (DQ5B)/(DQ5B) (io), R3 IO, DIFFIO_B2p, (DQ3B)/(DQ5B) (io), R4 IO, PLL1_CLKOUTp (io), R5 IO, DIFFIO_B6p, (DQ3B)/(DQ5B) (io), R6 IO, DIFFIO_B7p, (DQ3B)/(DQ5B) (io), R7 IO, DIFFIO_B8p, (DQ3B)/(DQ5B) (io), R8 IO, DIFFIO_B11p (io), T2 IO, (DQS1B/CQ1B#,DPCLK2)/(DQS1B/CQ1B#,DPCLK2) (io), T3 IO, DIFFIO_B2n (io), T4 IO, PLL1_CLKOUTn (io), T5 IO, DIFFIO_B6n (io), T6 IO, DIFFIO_B7n (io), T7 IO, DIFFIO_B8n, (DQS5B/CQ5B#)/(DQS5B/CQ5B#) (io), T8 IO, DIFFIO_B11n (io)
part D pins: K9 IO, DIFFIO_B13p (io), K10 IO, DIFFIO_B18p (io), L9 IO, DIFFIO_B13n (io), L10 IO, DIFFIO_B18n (io), L11 IO, DIFFIO_B21n (io), M9 IO, DIFFIO_B14p (io), M10 IO, RUP2 (io), M11 IO, DIFFIO_B22p (io), N9 IO, DIFFIO_B14n, (DQ5B)/(DQ5B) (io), N11 IO, RDN2 (io), N12 IO, DIFFIO_B22n (io), P9 IO, (DQS2B/CQ3B)/(DQS2B/CQ3B) (io), P11 IO, VREFB4N0 (io), P14 IO, DIFFIO_B21p (io), R9 IO, DIFFIO_B12p (io), R10 IO, DIFFIO_B15p, (DQ5B)/(DQ5B) (io), R11 IO, DIFFIO_B16p, (DQ5B)/(DQ5B) (io), R12 IO, DIFFIO_B17p, (DQ5B)/(DQ5B) (io), R13 IO, DIFFIO_B19p (io), R14 IO (io), T9 IO, DIFFIO_B12n (io), T10 IO, DIFFIO_B15n, (DQS4B/CQ5B)/(DQS4B/CQ5B) (io), T11 IO, DIFFIO_B16n (io), T12 IO, DIFFIO_B17n, (DQ5B)/(DQ5B) (io), T13 IO, DIFFIO_B19n, (DQ5B)/(DQ5B) (io), T14 IO, DIFFIO_B20p, (DQ5B)/(DQ5B) (io), T15 IO, DIFFIO_B20n, (DQS0B/CQ1B,DPCLK3)/(DQS0B/CQ1B,DPCLK3) (io)
part E pins: J11 IO (io), J12 IO, DIFFIO_R6p (io), J13 IO, (DQ1R)/_ (io), J14 IO, DIFFIO_R6n, (DQ1R)/_ (io), J15 IO, DIFFIO_R7p, (DEV_CLRn) (io), J16 IO, DIFFIO_R7n, (DEV_OE) (io), K11 IO (io), K12 IO (io), K15 IO, DIFFIO_R8p, (DQS1R/CQ1R#,DPCLK4)/(DQS1R/CQ1R#,DPCLK4) (io), K16 IO, DIFFIO_R8n, (DQ1R)/_ (io), L12 IO (io), L13 IO, (DQ1R)/_ (io), L14 IO, VREFB5N0 (io), L15 IO, DIFFIO_R9p (io), L16 IO, DIFFIO_R9n, (DQ1R)/_ (io), M12 IO (io), N13 IO (io), N14 IO, RUP3, (DM1R/BWS#1R)/_ (io), N15 IO, DIFFIO_R10p, (DQ1R)/_ (io), N16 IO, DIFFIO_R10n, (DQ1R)/_ (io), P15 IO, RDN3, (DQ1R)/_ (io), P16 IO, DIFFIO_R11n, (DQS3R/CQ3R#)/(DQS3R/CQ3R#) (io), R16 IO, DIFFIO_R11p, (DQ1R)/_ (io)
part F pins: B16 IO, (DQS0R/CQ1R,DPCLK5)/(DQS0R/CQ1R,DPCLK5) (io), C15 IO, DIFFIO_R1p (io), C16 IO, DIFFIO_R1n, (DQS2R/CQ3R)/(DQS2R/CQ3R) (io), D15 IO, DIFFIO_R2p (io), D16 IO, DIFFIO_R2n (io), F13 IO (io), F14 IO, VREFB6N0 (io), F15 IO, DIFFIO_R3p, (CLKUSR) (io), F16 IO, DIFFIO_R3n, (nCEO) (io), G11 IO (io), G15 IO, DIFFIO_R4p, (CRC_ERROR) (io), G16 IO, DIFFIO_R4n, (INIT_DONE) (io), H15 IO, DIFFIO_R5p (io), H16 IO, DIFFIO_R5n (io)
part G pins: A9 IO, DIFFIO_T12n (io), A10 IO, DIFFIO_T14n, (DQ5T)/(DQ5T) (io), A11 IO, DIFFIO_T17n, (DQ5T)/(DQ5T) (io), A12 IO, DIFFIO_T18n, (DQ5T)/(DQ5T) (io), A13 IO, DIFFIO_T19n (io), A14 IO, PLL2_CLKOUTn (io), A15 IO, DIFFIO_T15p (io), B9 IO, DIFFIO_T12p (io), B10 IO, DIFFIO_T14p, (DQ5T)/(DQ5T) (io), B11 IO, DIFFIO_T17p, (DQ5T)/(DQ5T) (io), B12 IO, DIFFIO_T18p, (DQ5T)/(DQ5T) (io), B13 IO, DIFFIO_T19p, (DQ5T)/(DQ5T) (io), B14 IO, PLL2_CLKOUTp (io), C9 IO, DIFFIO_T13n, (DQ5T)/(DQ5T) (io), C11 IO, VREFB7N0 (io), C14 IO, DIFFIO_T21n (io), D9 IO, DIFFIO_T13p, (DM5T/BWS#5T)/(DM5T0/BWS#5T0) (io), D11 IO, DIFFIO_T20n (io), D12 IO, DIFFIO_T20p, (DQS0T/CQ1T,DPCLK6)/(DQS0T/CQ1T,DPCLK6) (io), D14 IO, DIFFIO_T21p, (DQ5T)/(DQ5T) (io), E9 IO, (DQS4T/CQ5T)/(DQS4T/CQ5T) (io), E10 IO, RDN4 (io), E11 IO, RUP4 (io), F9 IO, DIFFIO_T16p, (DQS2T/CQ3T)/(DQS2T/CQ3T) (io), F10 IO, DIFFIO_T16n (io), F11 IO, DIFFIO_T15n (io)
part H pins: A2 IO, DIFFIO_T5n (io), A3 IO, DIFFIO_T2n (io), A4 IO, DIFFIO_T4n, (DM3T/BWS#3T)/(DM5T1/BWS#5T1) (io), A5 IO, (DATA7), (DQ3T)/(DQ5T) (io), A6 IO, DIFFIO_T7n, (DQS3T/CQ3T#)/(DQS3T/CQ3T#) (io), A7 IO, DIFFIO_T9n, (DQ3T)/(DQ5T) (io), A8 IO, DIFFIO_T11n (io), B3 IO, DIFFIO_T2p, (DQS1T/CQ1T#,DPCLK7)/(DQS1T/CQ1T#,DPCLK7) (io), B4 IO, DIFFIO_T4p (io), B5 IO, DIFFIO_T5p, (DQ3T)/(DQ5T) (io), B6 IO, DIFFIO_T7p, (DQ3T)/(DQ5T) (io), B7 IO, DIFFIO_T9p, (DATA4), (DQ3T)/(DQ5T) (io), B8 IO, DIFFIO_T11p (io), C3 IO, DIFFIO_T1n (io), C6 IO, VREFB8N0 (io), C8 IO, (DQS5T/CQ5T#)/(DQS5T/CQ5T#) (io), D3 IO, DIFFIO_T1p (io), D5 IO, DIFFIO_T3n (io), D6 IO, DIFFIO_T3p (io), D8 IO, (DQ3T)/(DQ5T) (io), E6 IO, (DATA6), (DQ3T)/(DQ5T) (io), E7 IO, (DATA5), (DQ3T)/(DQ5T) (io), E8 IO, DIFFIO_T10n, (DATA2), (DQ3T)/(DQ5T) (io), F6 IO, DIFFIO_T8n (io), F7 IO, DIFFIO_T8p (io), F8 IO, DIFFIO_T10p, (DATA3) (io)
part I pins: E1 CLK1, DIFFCLK_0n (in), E2 CLK0, DIFFCLK_0p (in), E15 CLK4, DIFFCLK_2p (in), E16 CLK5, DIFFCLK_2n (in), M1 CLK3, DIFFCLK_1n (in), M2 CLK2, DIFFCLK_1p (in), M15 CLK6, DIFFCLK_3p (in), M16 CLK7, DIFFCLK_3n (in)
part J pins: F4 nSTATUS (io), G12 MSEL2 (in), H1 DCLK (io), H3 TCK (in), H4 TDI (in), H5 nCONFIG (in), H12 MSEL1 (in), H13 MSEL0 (in), H14 CONF_DONE (io), J3 nCE (in), J4 TDO (out), J5 TMS (in)
part K pins: A1 VCCIO8 (power), A16 VCCIO7 (power), C4 VCCIO8 (power), C7 VCCIO8 (power), C10 VCCIO7 (power), C13 VCCIO7 (power), E3 VCCIO1 (power), E14 VCCIO6 (power), G3 VCCIO1 (power), G6 VCCINT (power), G7 VCCINT (power), G8 VCCINT (power), G9 VCCINT (power), G10 VCCINT (power), G14 VCCIO6 (power), H6 VCCINT (power), H11 VCCINT (power), K3 VCCIO2 (power), K7 VCCINT (power), K14 VCCIO5 (power), M3 VCCIO2 (power), M14 VCCIO5 (power), P4 VCCIO3 (power), P7 VCCIO3 (power), P10 VCCIO4 (power), P13 VCCIO4 (power), T1 VCCIO3 (power), T16 VCCIO4 (power)
part L pins: B2 GND (power), B15 GND (power), C5 GND (power), C12 GND (power), D7 GND (power), D10 GND (power), E4 GND (power), E13 GND (power), G4 GND (power), G13 GND (power), H7 GND (power), H8 GND (power), H9 GND (power), H10 GND (power), J7 GND (power), J8 GND (power), J9 GND (power), J10 GND (power), K4 GND (power), K13 GND (power), M4 GND (power), M13 GND (power), N7 GND (power), N10 GND (power), P5 GND (power), P12 GND (power), R2 GND (power), R15 GND (power)
part M pins: D13 VCCD_PLL2 (power), E12 GNDA2 (power), F12 VCCA2 (power), L5 VCCA1 (power), M5 GNDA1 (power), N4 VCCD_PLL1 (power)
part A text: BANK 1
part B text: BANK 2
part C text: BANK 3
part D text: BANK 4
part E text: BANK 5
part F text: BANK 6
part G text: BANK 7
part H text: BANK 8

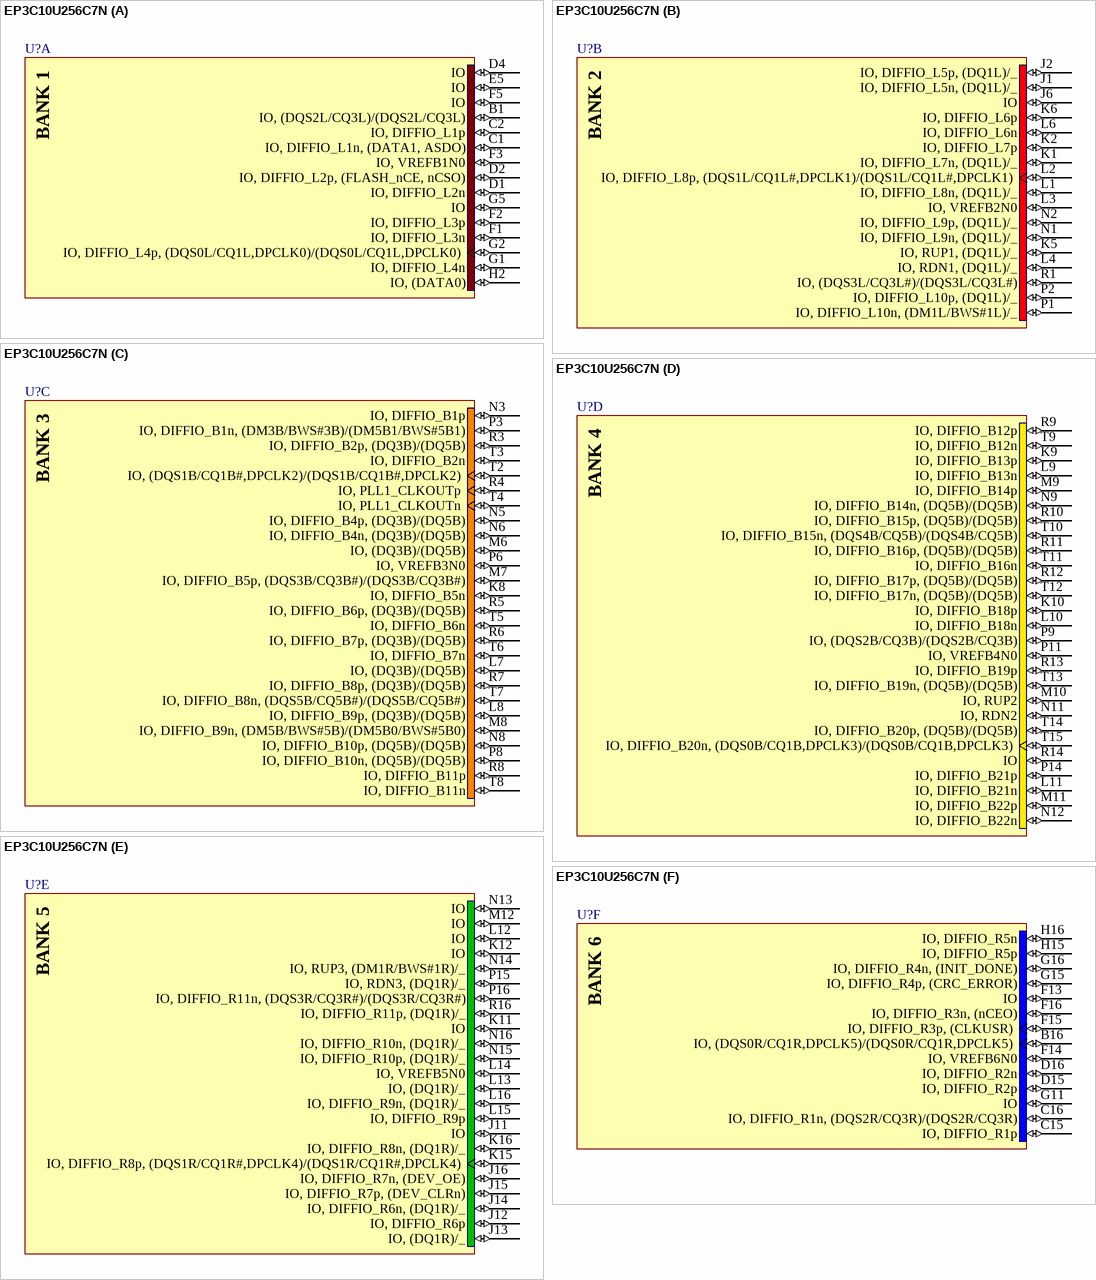
[diagram p55: symbol EP3C10U256C7N]

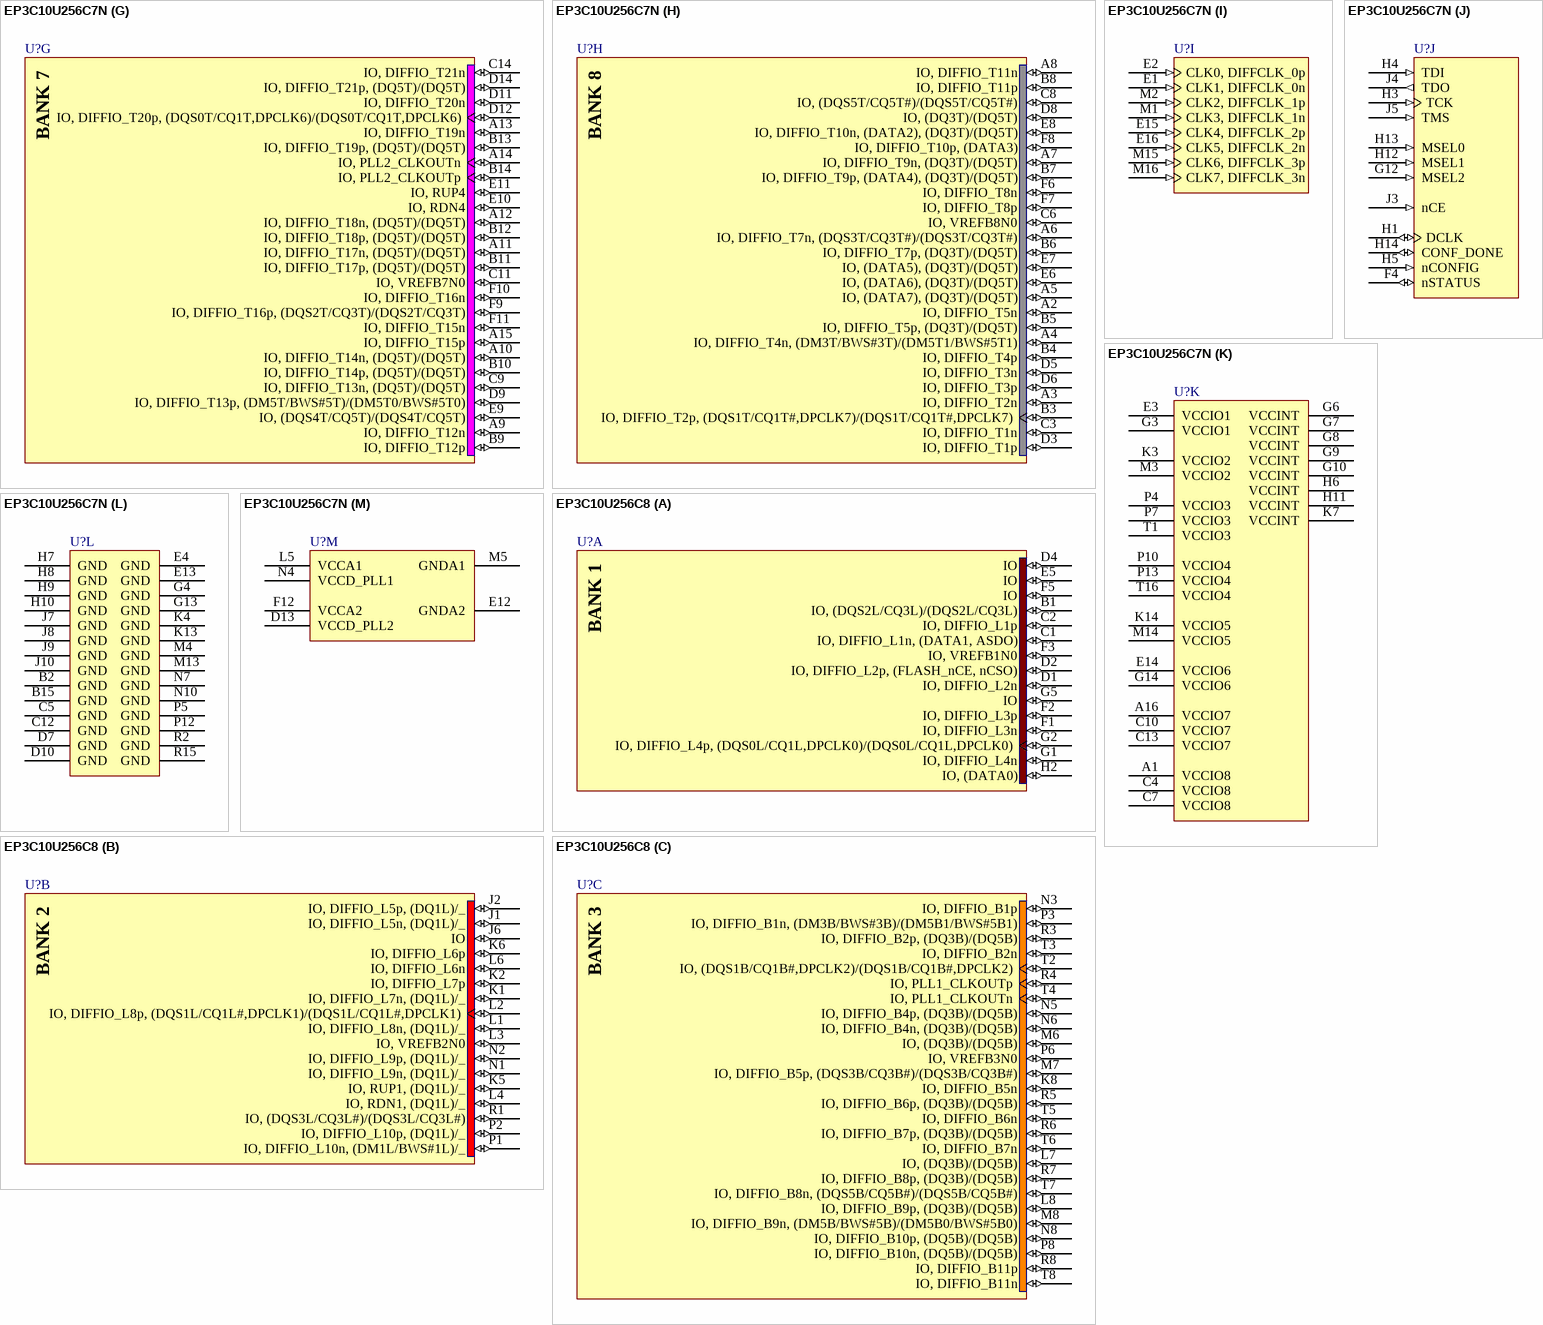
[diagram p56: symbols EP3C10U256C7N to EP3C10U256C8]